# Altium integrated library Actel SX-A.IntLib: 301 symbols (part 23 of 23)
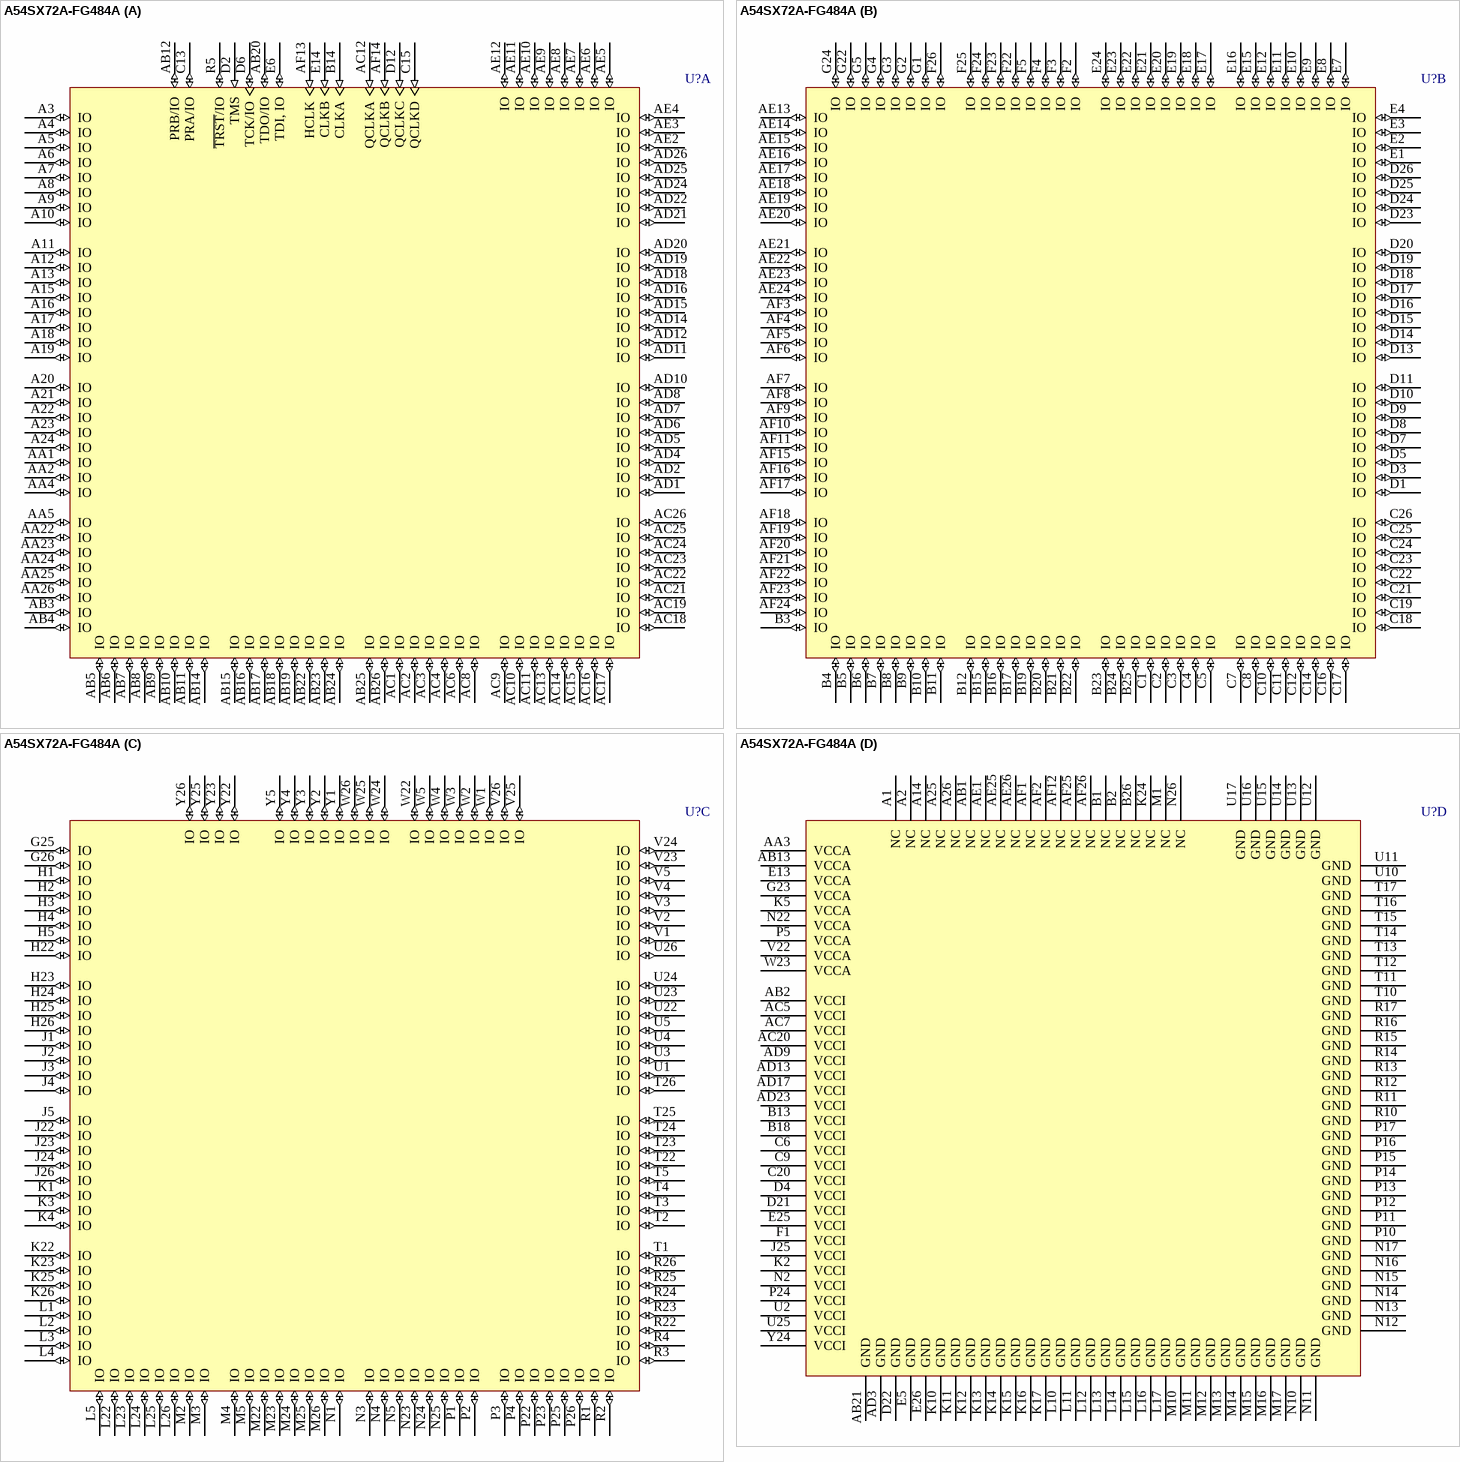
[diagram p254: symbol A54SX72A-FG484A]

## A54SX72A-FG484A
designator U?
A54SX72A FPGA, 360 User IOs, 484-Pin FBGA, Standard Speed Grade, Automotive Grade; Published: 21-May-2003; LatestRevisionDate: 13-Apr-2006; LatestRevisionNote: IPC-7351 Footprint Added.; DatasheetVersion: Feb-2005; PackageVersion: v9.2, Apr-2006; PackageReference: FG484TE; Publisher: Altium Limited; PackageDescription: 484-Ball Fine Pitch Plastic Ball Grid Array (FG484) - Thermally Enhanced; Code_JEDEC: MS-034-AAL-1; ComponentLink1Description: Manufacturer Link; ComponentLink1URL: http://www.actel.com/products/sxa/index.html; ComponentLink2Description: Datasheet; ComponentLink2URL: http://www.actel.com/documents/A54SXADS.pdf
footprint FG484TE (BGA, 484-Leads, Body 27x27mm, Pitch 1mm)
3D model A54SX72A-FG484TE (484-Ball Fine Pitch Plastic Ball Grid Array (FG484) - Thermally Enhanced)
part A pins: A3 IO (io), A4 IO (io), A5 IO (io), A6 IO (io), A7 IO (io), A8 IO (io), A9 IO (io), A10 IO (io), A11 IO (io), A12 IO (io), A13 IO (io), A15 IO (io), A16 IO (io), A17 IO (io), A18 IO (io), A19 IO (io), A20 IO (io), A21 IO (io), A22 IO (io), A23 IO (io), A24 IO (io), AA1 IO (io), AA2 IO (io), AA4 IO (io), AA5 IO (io), AA22 IO (io), AA23 IO (io), AA24 IO (io), AA25 IO (io), AA26 IO (io), AB3 IO (io), AB4 IO (io), AB5 IO (io), AB6 IO (io), AB7 IO (io), AB8 IO (io), AB9 IO (io), AB10 IO (io), AB11 IO (io), AB12 PRB/IO (io), AB14 IO (io), AB15 IO (io), AB16 IO (io), AB17 IO (io), AB18 IO (io), AB19 IO (io), AB20 TDO/IO (io), AB22 IO (io), AB23 IO (io), AB24 IO (io), AB25 IO (io), AB26 IO (io), AC1 IO (io), AC2 IO (io), AC3 IO (io), AC4 IO (io), AC6 IO (io), AC8 IO (io), AC9 IO (io), AC10 IO (io), AC11 IO (io), AC12 QCLKA (in), AC13 IO (io), AC14 IO (io), AC15 IO (io), AC16 IO (io), AC17 IO (io), AC18 IO (io), AC19 IO (io), AC21 IO (io), AC22 IO (io), AC23 IO (io), AC24 IO (io), AC25 IO (io), AC26 IO (io), AD1 IO (io), AD2 IO (io), AD4 IO (io), AD5 IO (io), AD6 IO (io), AD7 IO (io), AD8 IO (io), AD10 IO (io), AD11 IO (io), AD12 IO (io), AD14 IO (io), AD15 IO (io), AD16 IO (io), AD18 IO (io), AD19 IO (io), AD20 IO (io), AD21 IO (io), AD22 IO (io), AD24 IO (io), AD25 IO (io), AD26 IO (io), AE2 IO (io), AE3 IO (io), AE4 IO (io), AE5 IO (io), AE6 IO (io), AE7 IO (io), AE8 IO (io), AE9 IO (io), AE10 IO (io), AE11 IO (io), AE12 IO (io), AF13 HCLK (in), AF14 QCLKB (in), B14 CLKA (in), C13 PRA/IO (io), C15 QCLKD (in), D2 TMS (in), D6 TCK/IO (io), D12 QCLKC (in), E6 TDI, IO (io), E14 CLKB (in), R5 ~{TRST}/IO (io)
part B pins: AE13 IO (io), AE14 IO (io), AE15 IO (io), AE16 IO (io), AE17 IO (io), AE18 IO (io), AE19 IO (io), AE20 IO (io), AE21 IO (io), AE22 IO (io), AE23 IO (io), AE24 IO (io), AF3 IO (io), AF4 IO (io), AF5 IO (io), AF6 IO (io), AF7 IO (io), AF8 IO (io), AF9 IO (io), AF10 IO (io), AF11 IO (io), AF15 IO (io), AF16 IO (io), AF17 IO (io), AF18 IO (io), AF19 IO (io), AF20 IO (io), AF21 IO (io), AF22 IO (io), AF23 IO (io), AF24 IO (io), B3 IO (io), B4 IO (io), B5 IO (io), B6 IO (io), B7 IO (io), B8 IO (io), B9 IO (io), B10 IO (io), B11 IO (io), B12 IO (io), B15 IO (io), B16 IO (io), B17 IO (io), B19 IO (io), B20 IO (io), B21 IO (io), B22 IO (io), B23 IO (io), B24 IO (io), B25 IO (io), C1 IO (io), C2 IO (io), C3 IO (io), C4 IO (io), C5 IO (io), C7 IO (io), C8 IO (io), C10 IO (io), C11 IO (io), C12 IO (io), C14 IO (io), C16 IO (io), C17 IO (io), C18 IO (io), C19 IO (io), C21 IO (io), C22 IO (io), C23 IO (io), C24 IO (io), C25 IO (io), C26 IO (io), D1 IO (io), D3 IO (io), D5 IO (io), D7 IO (io), D8 IO (io), D9 IO (io), D10 IO (io), D11 IO (io), D13 IO (io), D14 IO (io), D15 IO (io), D16 IO (io), D17 IO (io), D18 IO (io), D19 IO (io), D20 IO (io), D23 IO (io), D24 IO (io), D25 IO (io), D26 IO (io), E1 IO (io), E2 IO (io), E3 IO (io), E4 IO (io), E7 IO (io), E8 IO (io), E9 IO (io), E10 IO (io), E11 IO (io), E12 IO (io), E15 IO (io), E16 IO (io), E17 IO (io), E18 IO (io), E19 IO (io), E20 IO (io), E21 IO (io), E22 IO (io), E23 IO (io), E24 IO (io), F2 IO (io), F3 IO (io), F4 IO (io), F5 IO (io), F22 IO (io), F23 IO (io), F24 IO (io), F25 IO (io), F26 IO (io), G1 IO (io), G2 IO (io), G3 IO (io), G4 IO (io), G5 IO (io), G22 IO (io), G24 IO (io)
part C pins: G25 IO (io), G26 IO (io), H1 IO (io), H2 IO (io), H3 IO (io), H4 IO (io), H5 IO (io), H22 IO (io), H23 IO (io), H24 IO (io), H25 IO (io), H26 IO (io), J1 IO (io), J2 IO (io), J3 IO (io), J4 IO (io), J5 IO (io), J22 IO (io), J23 IO (io), J24 IO (io), J26 IO (io), K1 IO (io), K3 IO (io), K4 IO (io), K22 IO (io), K23 IO (io), K25 IO (io), K26 IO (io), L1 IO (io), L2 IO (io), L3 IO (io), L4 IO (io), L5 IO (io), L22 IO (io), L23 IO (io), L24 IO (io), L25 IO (io), L26 IO (io), M2 IO (io), M3 IO (io), M4 IO (io), M5 IO (io), M22 IO (io), M23 IO (io), M24 IO (io), M25 IO (io), M26 IO (io), N1 IO (io), N3 IO (io), N4 IO (io), N5 IO (io), N23 IO (io), N24 IO (io), N25 IO (io), P1 IO (io), P2 IO (io), P3 IO (io), P4 IO (io), P22 IO (io), P23 IO (io), P25 IO (io), P26 IO (io), R1 IO (io), R2 IO (io), R3 IO (io), R4 IO (io), R22 IO (io), R23 IO (io), R24 IO (io), R25 IO (io), R26 IO (io), T1 IO (io), T2 IO (io), T3 IO (io), T4 IO (io), T5 IO (io), T22 IO (io), T23 IO (io), T24 IO (io), T25 IO (io), T26 IO (io), U1 IO (io), U3 IO (io), U4 IO (io), U5 IO (io), U22 IO (io), U23 IO (io), U24 IO (io), U26 IO (io), V1 IO (io), V2 IO (io), V3 IO (io), V4 IO (io), V5 IO (io), V23 IO (io), V24 IO (io), V25 IO (io), V26 IO (io), W1 IO (io), W2 IO (io), W3 IO (io), W4 IO (io), W5 IO (io), W22 IO (io), W24 IO (io), W25 IO (io), W26 IO (io), Y1 IO (io), Y2 IO (io), Y3 IO (io), Y4 IO (io), Y5 IO (io), Y22 IO (io), Y23 IO (io), Y25 IO (io), Y26 IO (io)
part D pins: A1 NC, A2 NC, A14 NC, A25 NC, A26 NC, AA3 VCCA (power), AB1 NC, AB2 VCCI (power), AB13 VCCA (power), AB21 GND (power), AC5 VCCI (power), AC7 VCCI (power), AC20 VCCI (power), AD3 GND (power), AD9 VCCI (power), AD13 VCCI (power), AD17 VCCI (power), AD23 VCCI (power), AE1 NC, AE25 NC, AE26 NC, AF1 NC, AF2 NC, AF12 NC, AF25 NC, AF26 NC, B1 NC, B2 NC, B13 VCCI (power), B18 VCCI (power), B26 NC, C6 VCCI (power), C9 VCCI (power), C20 VCCI (power), D4 VCCI (power), D21 VCCI (power), D22 GND (power), E5 GND (power), E13 VCCA (power), E25 VCCI (power), E26 GND (power), F1 VCCI (power), G23 VCCA (power), J25 VCCI (power), K2 VCCI (power), K5 VCCA (power), K10 GND (power), K11 GND (power), K12 GND (power), K13 GND (power), K14 GND (power), K15 GND (power), K16 GND (power), K17 GND (power), K24 NC, L10 GND (power), L11 GND (power), L12 GND (power), L13 GND (power), L14 GND (power), L15 GND (power), L16 GND (power), L17 GND (power), M1 NC, M10 GND (power), M11 GND (power), M12 GND (power), M13 GND (power), M14 GND (power), M15 GND (power), M16 GND (power), M17 GND (power), N2 VCCI (power), N10 GND (power), N11 GND (power), N12 GND (power), N13 GND (power), N14 GND (power), N15 GND (power), N16 GND (power), N17 GND (power), N22 VCCA (power), N26 NC, P5 VCCA (power), P10 GND (power), P11 GND (power), P12 GND (power), P13 GND (power), P14 GND (power), P15 GND (power), P16 GND (power), P17 GND (power), P24 VCCI (power), R10 GND (power), R11 GND (power), R12 GND (power), R13 GND (power), R14 GND (power), R15 GND (power), R16 GND (power), R17 GND (power), T10 GND (power), T11 GND (power), T12 GND (power), T13 GND (power), T14 GND (power), T15 GND (power), T16 GND (power), T17 GND (power), U2 VCCI (power), U10 GND (power), U11 GND (power), U12 GND (power), U13 GND (power), U14 GND (power), U15 GND (power), U16 GND (power), U17 GND (power), U25 VCCI (power), V22 VCCA (power), W23 VCCA (power), Y24 VCCI (power)

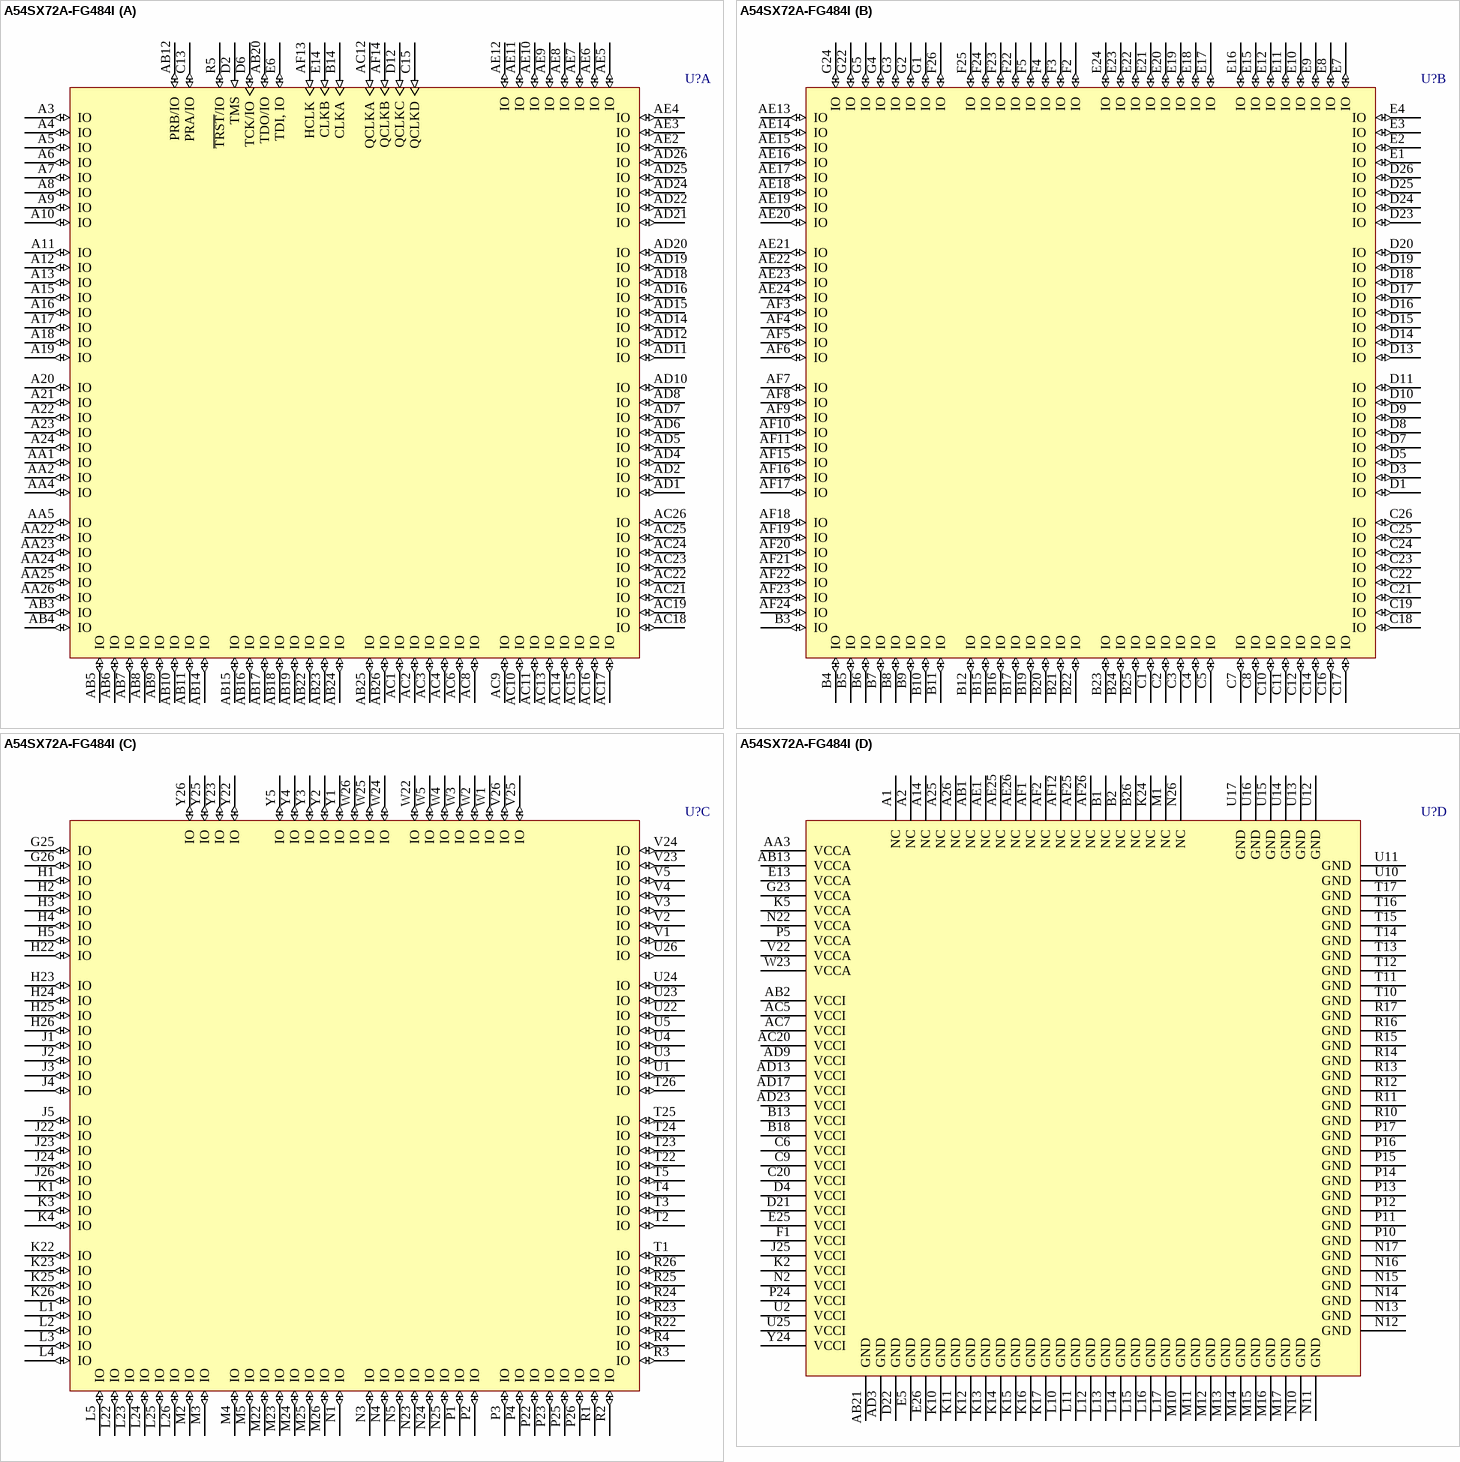
[diagram p225: symbol A54SX72A-FG484I]

## A54SX72A-FG484I
designator U?
A54SX72A FPGA, 360 User IOs, 484-Pin FBGA, Standard Speed Grade, Industrial Grade; Published: 21-May-2003; LatestRevisionDate: 13-Apr-2006; LatestRevisionNote: IPC-7351 Footprint Added.; DatasheetVersion: Feb-2005; PackageVersion: v9.2, Apr-2006; PackageReference: FG484TE; Publisher: Altium Limited; PackageDescription: 484-Ball Fine Pitch Plastic Ball Grid Array (FG484) - Thermally Enhanced; Code_JEDEC: MS-034-AAL-1; ComponentLink1Description: Manufacturer Link; ComponentLink1URL: http://www.actel.com/products/sxa/index.html; ComponentLink2Description: Datasheet; ComponentLink2URL: http://www.actel.com/documents/A54SXADS.pdf
footprint FG484TE (BGA, 484-Leads, Body 27x27mm, Pitch 1mm)
3D model A54SX72A-FG484TE (484-Ball Fine Pitch Plastic Ball Grid Array (FG484) - Thermally Enhanced)
part A pins: A3 IO (io), A4 IO (io), A5 IO (io), A6 IO (io), A7 IO (io), A8 IO (io), A9 IO (io), A10 IO (io), A11 IO (io), A12 IO (io), A13 IO (io), A15 IO (io), A16 IO (io), A17 IO (io), A18 IO (io), A19 IO (io), A20 IO (io), A21 IO (io), A22 IO (io), A23 IO (io), A24 IO (io), AA1 IO (io), AA2 IO (io), AA4 IO (io), AA5 IO (io), AA22 IO (io), AA23 IO (io), AA24 IO (io), AA25 IO (io), AA26 IO (io), AB3 IO (io), AB4 IO (io), AB5 IO (io), AB6 IO (io), AB7 IO (io), AB8 IO (io), AB9 IO (io), AB10 IO (io), AB11 IO (io), AB12 PRB/IO (io), AB14 IO (io), AB15 IO (io), AB16 IO (io), AB17 IO (io), AB18 IO (io), AB19 IO (io), AB20 TDO/IO (io), AB22 IO (io), AB23 IO (io), AB24 IO (io), AB25 IO (io), AB26 IO (io), AC1 IO (io), AC2 IO (io), AC3 IO (io), AC4 IO (io), AC6 IO (io), AC8 IO (io), AC9 IO (io), AC10 IO (io), AC11 IO (io), AC12 QCLKA (in), AC13 IO (io), AC14 IO (io), AC15 IO (io), AC16 IO (io), AC17 IO (io), AC18 IO (io), AC19 IO (io), AC21 IO (io), AC22 IO (io), AC23 IO (io), AC24 IO (io), AC25 IO (io), AC26 IO (io), AD1 IO (io), AD2 IO (io), AD4 IO (io), AD5 IO (io), AD6 IO (io), AD7 IO (io), AD8 IO (io), AD10 IO (io), AD11 IO (io), AD12 IO (io), AD14 IO (io), AD15 IO (io), AD16 IO (io), AD18 IO (io), AD19 IO (io), AD20 IO (io), AD21 IO (io), AD22 IO (io), AD24 IO (io), AD25 IO (io), AD26 IO (io), AE2 IO (io), AE3 IO (io), AE4 IO (io), AE5 IO (io), AE6 IO (io), AE7 IO (io), AE8 IO (io), AE9 IO (io), AE10 IO (io), AE11 IO (io), AE12 IO (io), AF13 HCLK (in), AF14 QCLKB (in), B14 CLKA (in), C13 PRA/IO (io), C15 QCLKD (in), D2 TMS (in), D6 TCK/IO (io), D12 QCLKC (in), E6 TDI, IO (io), E14 CLKB (in), R5 ~{TRST}/IO (io)
part B pins: AE13 IO (io), AE14 IO (io), AE15 IO (io), AE16 IO (io), AE17 IO (io), AE18 IO (io), AE19 IO (io), AE20 IO (io), AE21 IO (io), AE22 IO (io), AE23 IO (io), AE24 IO (io), AF3 IO (io), AF4 IO (io), AF5 IO (io), AF6 IO (io), AF7 IO (io), AF8 IO (io), AF9 IO (io), AF10 IO (io), AF11 IO (io), AF15 IO (io), AF16 IO (io), AF17 IO (io), AF18 IO (io), AF19 IO (io), AF20 IO (io), AF21 IO (io), AF22 IO (io), AF23 IO (io), AF24 IO (io), B3 IO (io), B4 IO (io), B5 IO (io), B6 IO (io), B7 IO (io), B8 IO (io), B9 IO (io), B10 IO (io), B11 IO (io), B12 IO (io), B15 IO (io), B16 IO (io), B17 IO (io), B19 IO (io), B20 IO (io), B21 IO (io), B22 IO (io), B23 IO (io), B24 IO (io), B25 IO (io), C1 IO (io), C2 IO (io), C3 IO (io), C4 IO (io), C5 IO (io), C7 IO (io), C8 IO (io), C10 IO (io), C11 IO (io), C12 IO (io), C14 IO (io), C16 IO (io), C17 IO (io), C18 IO (io), C19 IO (io), C21 IO (io), C22 IO (io), C23 IO (io), C24 IO (io), C25 IO (io), C26 IO (io), D1 IO (io), D3 IO (io), D5 IO (io), D7 IO (io), D8 IO (io), D9 IO (io), D10 IO (io), D11 IO (io), D13 IO (io), D14 IO (io), D15 IO (io), D16 IO (io), D17 IO (io), D18 IO (io), D19 IO (io), D20 IO (io), D23 IO (io), D24 IO (io), D25 IO (io), D26 IO (io), E1 IO (io), E2 IO (io), E3 IO (io), E4 IO (io), E7 IO (io), E8 IO (io), E9 IO (io), E10 IO (io), E11 IO (io), E12 IO (io), E15 IO (io), E16 IO (io), E17 IO (io), E18 IO (io), E19 IO (io), E20 IO (io), E21 IO (io), E22 IO (io), E23 IO (io), E24 IO (io), F2 IO (io), F3 IO (io), F4 IO (io), F5 IO (io), F22 IO (io), F23 IO (io), F24 IO (io), F25 IO (io), F26 IO (io), G1 IO (io), G2 IO (io), G3 IO (io), G4 IO (io), G5 IO (io), G22 IO (io), G24 IO (io)
part C pins: G25 IO (io), G26 IO (io), H1 IO (io), H2 IO (io), H3 IO (io), H4 IO (io), H5 IO (io), H22 IO (io), H23 IO (io), H24 IO (io), H25 IO (io), H26 IO (io), J1 IO (io), J2 IO (io), J3 IO (io), J4 IO (io), J5 IO (io), J22 IO (io), J23 IO (io), J24 IO (io), J26 IO (io), K1 IO (io), K3 IO (io), K4 IO (io), K22 IO (io), K23 IO (io), K25 IO (io), K26 IO (io), L1 IO (io), L2 IO (io), L3 IO (io), L4 IO (io), L5 IO (io), L22 IO (io), L23 IO (io), L24 IO (io), L25 IO (io), L26 IO (io), M2 IO (io), M3 IO (io), M4 IO (io), M5 IO (io), M22 IO (io), M23 IO (io), M24 IO (io), M25 IO (io), M26 IO (io), N1 IO (io), N3 IO (io), N4 IO (io), N5 IO (io), N23 IO (io), N24 IO (io), N25 IO (io), P1 IO (io), P2 IO (io), P3 IO (io), P4 IO (io), P22 IO (io), P23 IO (io), P25 IO (io), P26 IO (io), R1 IO (io), R2 IO (io), R3 IO (io), R4 IO (io), R22 IO (io), R23 IO (io), R24 IO (io), R25 IO (io), R26 IO (io), T1 IO (io), T2 IO (io), T3 IO (io), T4 IO (io), T5 IO (io), T22 IO (io), T23 IO (io), T24 IO (io), T25 IO (io), T26 IO (io), U1 IO (io), U3 IO (io), U4 IO (io), U5 IO (io), U22 IO (io), U23 IO (io), U24 IO (io), U26 IO (io), V1 IO (io), V2 IO (io), V3 IO (io), V4 IO (io), V5 IO (io), V23 IO (io), V24 IO (io), V25 IO (io), V26 IO (io), W1 IO (io), W2 IO (io), W3 IO (io), W4 IO (io), W5 IO (io), W22 IO (io), W24 IO (io), W25 IO (io), W26 IO (io), Y1 IO (io), Y2 IO (io), Y3 IO (io), Y4 IO (io), Y5 IO (io), Y22 IO (io), Y23 IO (io), Y25 IO (io), Y26 IO (io)
part D pins: A1 NC, A2 NC, A14 NC, A25 NC, A26 NC, AA3 VCCA (power), AB1 NC, AB2 VCCI (power), AB13 VCCA (power), AB21 GND (power), AC5 VCCI (power), AC7 VCCI (power), AC20 VCCI (power), AD3 GND (power), AD9 VCCI (power), AD13 VCCI (power), AD17 VCCI (power), AD23 VCCI (power), AE1 NC, AE25 NC, AE26 NC, AF1 NC, AF2 NC, AF12 NC, AF25 NC, AF26 NC, B1 NC, B2 NC, B13 VCCI (power), B18 VCCI (power), B26 NC, C6 VCCI (power), C9 VCCI (power), C20 VCCI (power), D4 VCCI (power), D21 VCCI (power), D22 GND (power), E5 GND (power), E13 VCCA (power), E25 VCCI (power), E26 GND (power), F1 VCCI (power), G23 VCCA (power), J25 VCCI (power), K2 VCCI (power), K5 VCCA (power), K10 GND (power), K11 GND (power), K12 GND (power), K13 GND (power), K14 GND (power), K15 GND (power), K16 GND (power), K17 GND (power), K24 NC, L10 GND (power), L11 GND (power), L12 GND (power), L13 GND (power), L14 GND (power), L15 GND (power), L16 GND (power), L17 GND (power), M1 NC, M10 GND (power), M11 GND (power), M12 GND (power), M13 GND (power), M14 GND (power), M15 GND (power), M16 GND (power), M17 GND (power), N2 VCCI (power), N10 GND (power), N11 GND (power), N12 GND (power), N13 GND (power), N14 GND (power), N15 GND (power), N16 GND (power), N17 GND (power), N22 VCCA (power), N26 NC, P5 VCCA (power), P10 GND (power), P11 GND (power), P12 GND (power), P13 GND (power), P14 GND (power), P15 GND (power), P16 GND (power), P17 GND (power), P24 VCCI (power), R10 GND (power), R11 GND (power), R12 GND (power), R13 GND (power), R14 GND (power), R15 GND (power), R16 GND (power), R17 GND (power), T10 GND (power), T11 GND (power), T12 GND (power), T13 GND (power), T14 GND (power), T15 GND (power), T16 GND (power), T17 GND (power), U2 VCCI (power), U10 GND (power), U11 GND (power), U12 GND (power), U13 GND (power), U14 GND (power), U15 GND (power), U16 GND (power), U17 GND (power), U25 VCCI (power), V22 VCCA (power), W23 VCCA (power), Y24 VCCI (power)

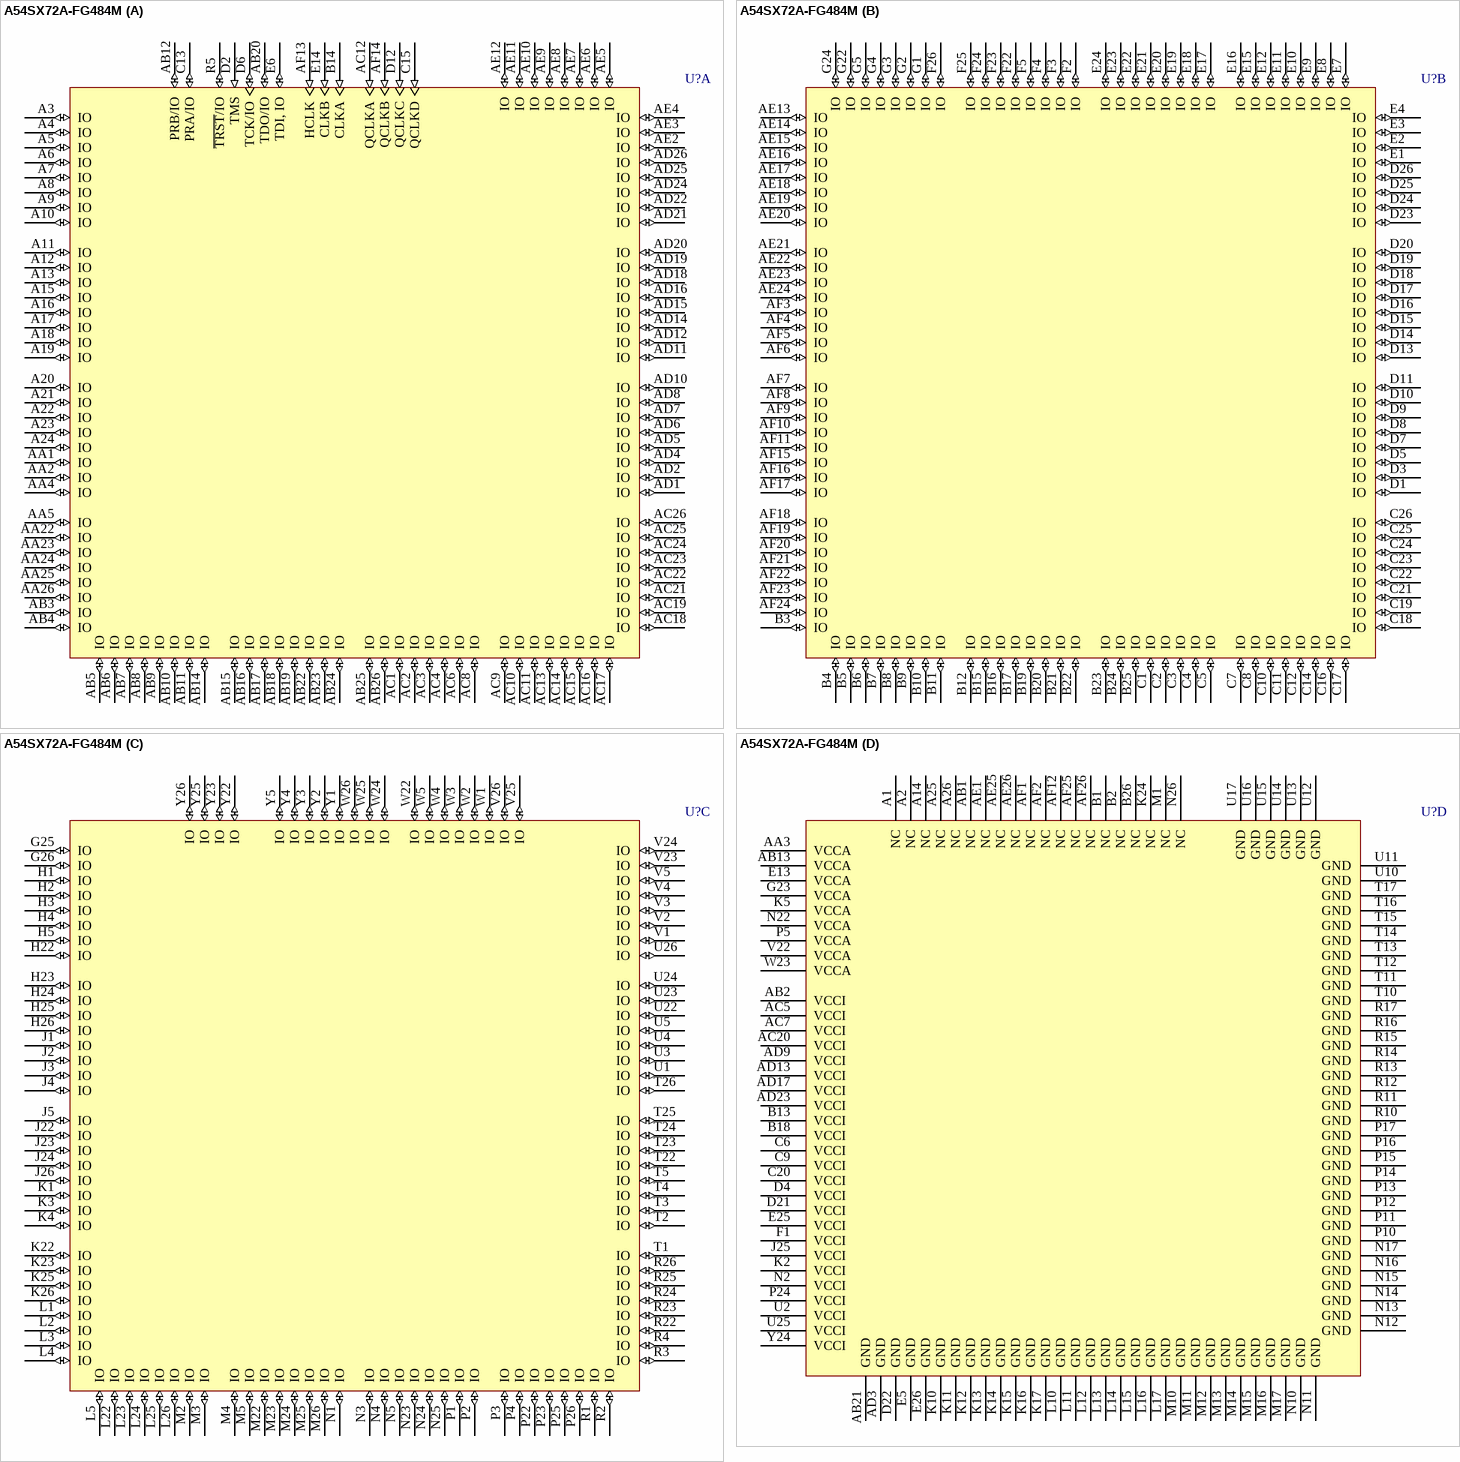
[diagram p226: symbol A54SX72A-FG484M]

## A54SX72A-FG484M
designator U?
A54SX72A FPGA, 360 User IOs, 484-Pin FBGA, Standard Speed Grade, Military Grade; Published: 21-May-2003; LatestRevisionDate: 13-Apr-2006; LatestRevisionNote: IPC-7351 Footprint Added.; DatasheetVersion: Feb-2005; PackageVersion: v9.2, Apr-2006; PackageReference: FG484TE; Publisher: Altium Limited; PackageDescription: 484-Ball Fine Pitch Plastic Ball Grid Array (FG484) - Thermally Enhanced; Code_JEDEC: MS-034-AAL-1; ComponentLink1Description: Manufacturer Link; ComponentLink1URL: http://www.actel.com/products/sxa/index.html; ComponentLink2Description: Datasheet; ComponentLink2URL: http://www.actel.com/documents/A54SXADS.pdf
footprint FG484TE (BGA, 484-Leads, Body 27x27mm, Pitch 1mm)
3D model A54SX72A-FG484TE (484-Ball Fine Pitch Plastic Ball Grid Array (FG484) - Thermally Enhanced)
part A pins: A3 IO (io), A4 IO (io), A5 IO (io), A6 IO (io), A7 IO (io), A8 IO (io), A9 IO (io), A10 IO (io), A11 IO (io), A12 IO (io), A13 IO (io), A15 IO (io), A16 IO (io), A17 IO (io), A18 IO (io), A19 IO (io), A20 IO (io), A21 IO (io), A22 IO (io), A23 IO (io), A24 IO (io), AA1 IO (io), AA2 IO (io), AA4 IO (io), AA5 IO (io), AA22 IO (io), AA23 IO (io), AA24 IO (io), AA25 IO (io), AA26 IO (io), AB3 IO (io), AB4 IO (io), AB5 IO (io), AB6 IO (io), AB7 IO (io), AB8 IO (io), AB9 IO (io), AB10 IO (io), AB11 IO (io), AB12 PRB/IO (io), AB14 IO (io), AB15 IO (io), AB16 IO (io), AB17 IO (io), AB18 IO (io), AB19 IO (io), AB20 TDO/IO (io), AB22 IO (io), AB23 IO (io), AB24 IO (io), AB25 IO (io), AB26 IO (io), AC1 IO (io), AC2 IO (io), AC3 IO (io), AC4 IO (io), AC6 IO (io), AC8 IO (io), AC9 IO (io), AC10 IO (io), AC11 IO (io), AC12 QCLKA (in), AC13 IO (io), AC14 IO (io), AC15 IO (io), AC16 IO (io), AC17 IO (io), AC18 IO (io), AC19 IO (io), AC21 IO (io), AC22 IO (io), AC23 IO (io), AC24 IO (io), AC25 IO (io), AC26 IO (io), AD1 IO (io), AD2 IO (io), AD4 IO (io), AD5 IO (io), AD6 IO (io), AD7 IO (io), AD8 IO (io), AD10 IO (io), AD11 IO (io), AD12 IO (io), AD14 IO (io), AD15 IO (io), AD16 IO (io), AD18 IO (io), AD19 IO (io), AD20 IO (io), AD21 IO (io), AD22 IO (io), AD24 IO (io), AD25 IO (io), AD26 IO (io), AE2 IO (io), AE3 IO (io), AE4 IO (io), AE5 IO (io), AE6 IO (io), AE7 IO (io), AE8 IO (io), AE9 IO (io), AE10 IO (io), AE11 IO (io), AE12 IO (io), AF13 HCLK (in), AF14 QCLKB (in), B14 CLKA (in), C13 PRA/IO (io), C15 QCLKD (in), D2 TMS (in), D6 TCK/IO (io), D12 QCLKC (in), E6 TDI, IO (io), E14 CLKB (in), R5 ~{TRST}/IO (io)
part B pins: AE13 IO (io), AE14 IO (io), AE15 IO (io), AE16 IO (io), AE17 IO (io), AE18 IO (io), AE19 IO (io), AE20 IO (io), AE21 IO (io), AE22 IO (io), AE23 IO (io), AE24 IO (io), AF3 IO (io), AF4 IO (io), AF5 IO (io), AF6 IO (io), AF7 IO (io), AF8 IO (io), AF9 IO (io), AF10 IO (io), AF11 IO (io), AF15 IO (io), AF16 IO (io), AF17 IO (io), AF18 IO (io), AF19 IO (io), AF20 IO (io), AF21 IO (io), AF22 IO (io), AF23 IO (io), AF24 IO (io), B3 IO (io), B4 IO (io), B5 IO (io), B6 IO (io), B7 IO (io), B8 IO (io), B9 IO (io), B10 IO (io), B11 IO (io), B12 IO (io), B15 IO (io), B16 IO (io), B17 IO (io), B19 IO (io), B20 IO (io), B21 IO (io), B22 IO (io), B23 IO (io), B24 IO (io), B25 IO (io), C1 IO (io), C2 IO (io), C3 IO (io), C4 IO (io), C5 IO (io), C7 IO (io), C8 IO (io), C10 IO (io), C11 IO (io), C12 IO (io), C14 IO (io), C16 IO (io), C17 IO (io), C18 IO (io), C19 IO (io), C21 IO (io), C22 IO (io), C23 IO (io), C24 IO (io), C25 IO (io), C26 IO (io), D1 IO (io), D3 IO (io), D5 IO (io), D7 IO (io), D8 IO (io), D9 IO (io), D10 IO (io), D11 IO (io), D13 IO (io), D14 IO (io), D15 IO (io), D16 IO (io), D17 IO (io), D18 IO (io), D19 IO (io), D20 IO (io), D23 IO (io), D24 IO (io), D25 IO (io), D26 IO (io), E1 IO (io), E2 IO (io), E3 IO (io), E4 IO (io), E7 IO (io), E8 IO (io), E9 IO (io), E10 IO (io), E11 IO (io), E12 IO (io), E15 IO (io), E16 IO (io), E17 IO (io), E18 IO (io), E19 IO (io), E20 IO (io), E21 IO (io), E22 IO (io), E23 IO (io), E24 IO (io), F2 IO (io), F3 IO (io), F4 IO (io), F5 IO (io), F22 IO (io), F23 IO (io), F24 IO (io), F25 IO (io), F26 IO (io), G1 IO (io), G2 IO (io), G3 IO (io), G4 IO (io), G5 IO (io), G22 IO (io), G24 IO (io)
part C pins: G25 IO (io), G26 IO (io), H1 IO (io), H2 IO (io), H3 IO (io), H4 IO (io), H5 IO (io), H22 IO (io), H23 IO (io), H24 IO (io), H25 IO (io), H26 IO (io), J1 IO (io), J2 IO (io), J3 IO (io), J4 IO (io), J5 IO (io), J22 IO (io), J23 IO (io), J24 IO (io), J26 IO (io), K1 IO (io), K3 IO (io), K4 IO (io), K22 IO (io), K23 IO (io), K25 IO (io), K26 IO (io), L1 IO (io), L2 IO (io), L3 IO (io), L4 IO (io), L5 IO (io), L22 IO (io), L23 IO (io), L24 IO (io), L25 IO (io), L26 IO (io), M2 IO (io), M3 IO (io), M4 IO (io), M5 IO (io), M22 IO (io), M23 IO (io), M24 IO (io), M25 IO (io), M26 IO (io), N1 IO (io), N3 IO (io), N4 IO (io), N5 IO (io), N23 IO (io), N24 IO (io), N25 IO (io), P1 IO (io), P2 IO (io), P3 IO (io), P4 IO (io), P22 IO (io), P23 IO (io), P25 IO (io), P26 IO (io), R1 IO (io), R2 IO (io), R3 IO (io), R4 IO (io), R22 IO (io), R23 IO (io), R24 IO (io), R25 IO (io), R26 IO (io), T1 IO (io), T2 IO (io), T3 IO (io), T4 IO (io), T5 IO (io), T22 IO (io), T23 IO (io), T24 IO (io), T25 IO (io), T26 IO (io), U1 IO (io), U3 IO (io), U4 IO (io), U5 IO (io), U22 IO (io), U23 IO (io), U24 IO (io), U26 IO (io), V1 IO (io), V2 IO (io), V3 IO (io), V4 IO (io), V5 IO (io), V23 IO (io), V24 IO (io), V25 IO (io), V26 IO (io), W1 IO (io), W2 IO (io), W3 IO (io), W4 IO (io), W5 IO (io), W22 IO (io), W24 IO (io), W25 IO (io), W26 IO (io), Y1 IO (io), Y2 IO (io), Y3 IO (io), Y4 IO (io), Y5 IO (io), Y22 IO (io), Y23 IO (io), Y25 IO (io), Y26 IO (io)
part D pins: A1 NC, A2 NC, A14 NC, A25 NC, A26 NC, AA3 VCCA (power), AB1 NC, AB2 VCCI (power), AB13 VCCA (power), AB21 GND (power), AC5 VCCI (power), AC7 VCCI (power), AC20 VCCI (power), AD3 GND (power), AD9 VCCI (power), AD13 VCCI (power), AD17 VCCI (power), AD23 VCCI (power), AE1 NC, AE25 NC, AE26 NC, AF1 NC, AF2 NC, AF12 NC, AF25 NC, AF26 NC, B1 NC, B2 NC, B13 VCCI (power), B18 VCCI (power), B26 NC, C6 VCCI (power), C9 VCCI (power), C20 VCCI (power), D4 VCCI (power), D21 VCCI (power), D22 GND (power), E5 GND (power), E13 VCCA (power), E25 VCCI (power), E26 GND (power), F1 VCCI (power), G23 VCCA (power), J25 VCCI (power), K2 VCCI (power), K5 VCCA (power), K10 GND (power), K11 GND (power), K12 GND (power), K13 GND (power), K14 GND (power), K15 GND (power), K16 GND (power), K17 GND (power), K24 NC, L10 GND (power), L11 GND (power), L12 GND (power), L13 GND (power), L14 GND (power), L15 GND (power), L16 GND (power), L17 GND (power), M1 NC, M10 GND (power), M11 GND (power), M12 GND (power), M13 GND (power), M14 GND (power), M15 GND (power), M16 GND (power), M17 GND (power), N2 VCCI (power), N10 GND (power), N11 GND (power), N12 GND (power), N13 GND (power), N14 GND (power), N15 GND (power), N16 GND (power), N17 GND (power), N22 VCCA (power), N26 NC, P5 VCCA (power), P10 GND (power), P11 GND (power), P12 GND (power), P13 GND (power), P14 GND (power), P15 GND (power), P16 GND (power), P17 GND (power), P24 VCCI (power), R10 GND (power), R11 GND (power), R12 GND (power), R13 GND (power), R14 GND (power), R15 GND (power), R16 GND (power), R17 GND (power), T10 GND (power), T11 GND (power), T12 GND (power), T13 GND (power), T14 GND (power), T15 GND (power), T16 GND (power), T17 GND (power), U2 VCCI (power), U10 GND (power), U11 GND (power), U12 GND (power), U13 GND (power), U14 GND (power), U15 GND (power), U16 GND (power), U17 GND (power), U25 VCCI (power), V22 VCCA (power), W23 VCCA (power), Y24 VCCI (power)

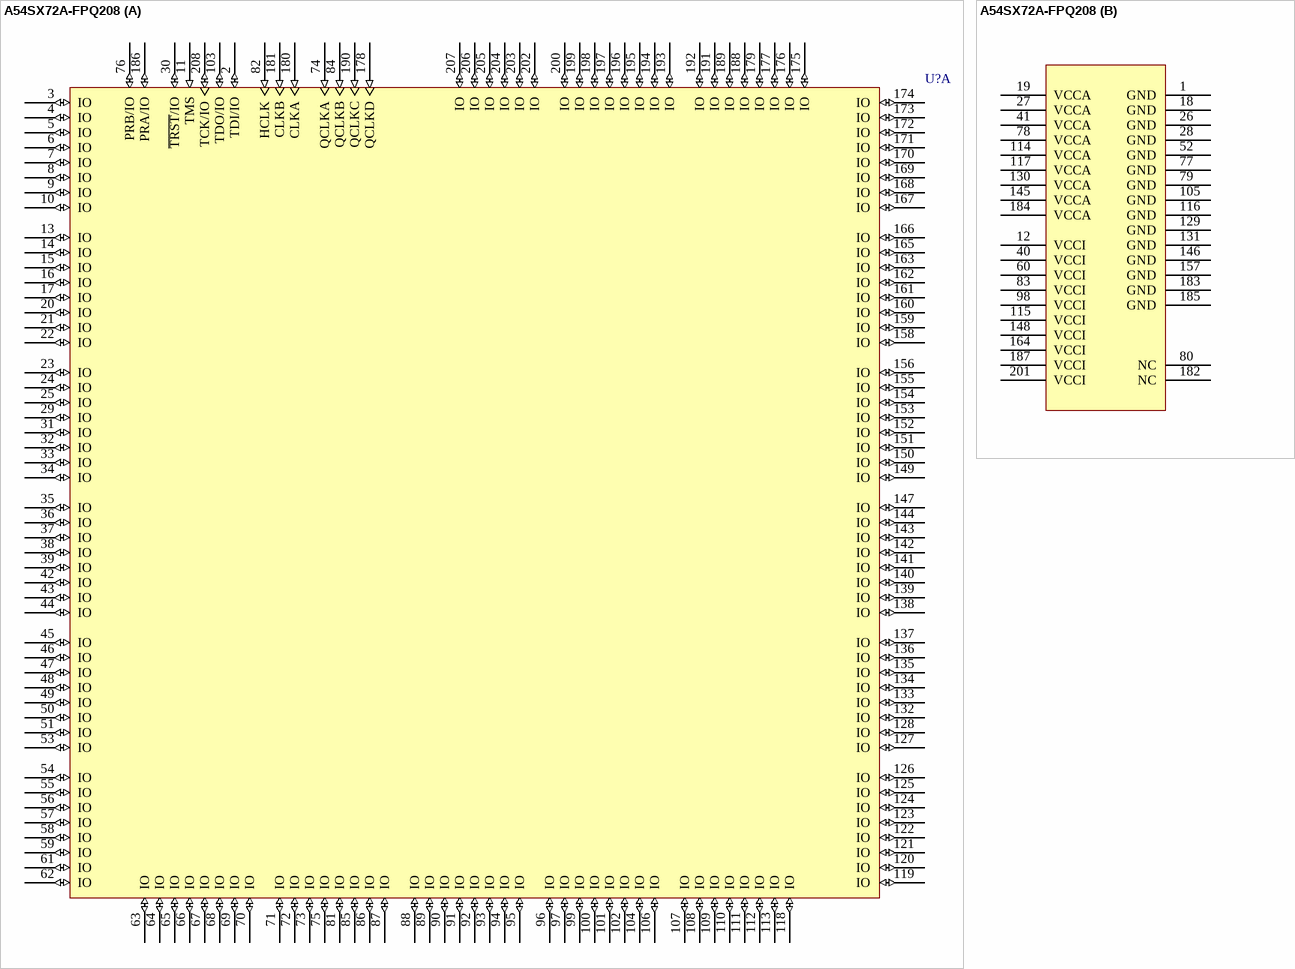
[diagram p227: symbol A54SX72A-FPQ208]

## A54SX72A-FPQ208
designator U?
A54SX72A FPGA, 171 User IOs, 208-Pin PQFP, Speed Grade F, Commercial Grade; Published: 21-May-2003; LatestRevisionDate: 13-Apr-2006; LatestRevisionNote: IPC-7351 Footprint Added.; DatasheetVersion: Feb-2005; PackageVersion: v9.2, Apr-2006; PackageReference: PQ208; Publisher: Altium Limited; PackageDescription: 208-Pin Plastic Quad Flat Pack (PQ208); Code_JEDEC: MS-029-FA-1; ComponentLink1Description: Manufacturer Link; ComponentLink1URL: http://www.actel.com/products/sxa/index.html; ComponentLink2Description: Datasheet; ComponentLink2URL: http://www.actel.com/documents/A54SXADS.pdf
footprint PQ208_N (Shrink QFP, 208-Leads, Body 28x28mm, Pitch 0.5mm, IPC Medium Density)
footprint PQ208_L (Shrink QFP, 208-Leads, Body 28x28mm, Pitch 0.5mm, IPC High Density)
footprint PQ208_M (Shrink QFP, 208-Leads, Body 28x28mm, Pitch 0.5mm, IPC Low Density)
3D model A54SX72A-PQ208 (208-Pin Plastic Quad Flat Pack (PQ208))
part A pins: 2 TDI/IO (io), 3 IO (io), 4 IO (io), 5 IO (io), 6 IO (io), 7 IO (io), 8 IO (io), 9 IO (io), 10 IO (io), 11 TMS (in), 13 IO (io), 14 IO (io), 15 IO (io), 16 IO (io), 17 IO (io), 20 IO (io), 21 IO (io), 22 IO (io), 23 IO (io), 24 IO (io), 25 IO (io), 29 IO (io), 30 ~{TRST}/IO (io), 31 IO (io), 32 IO (io), 33 IO (io), 34 IO (io), 35 IO (io), 36 IO (io), 37 IO (io), 38 IO (io), 39 IO (io), 42 IO (io), 43 IO (io), 44 IO (io), 45 IO (io), 46 IO (io), 47 IO (io), 48 IO (io), 49 IO (io), 50 IO (io), 51 IO (io), 53 IO (io), 54 IO (io), 55 IO (io), 56 IO (io), 57 IO (io), 58 IO (io), 59 IO (io), 61 IO (io), 62 IO (io), 63 IO (io), 64 IO (io), 65 IO (io), 66 IO (io), 67 IO (io), 68 IO (io), 69 IO (io), 70 IO (io), 71 IO (io), 72 IO (io), 73 IO (io), 74 QCLKA (in), 75 IO (io), 76 PRB/IO (io), 81 IO (io), 82 HCLK (in), 84 QCLKB (in), 85 IO (io), 86 IO (io), 87 IO (io), 88 IO (io), 89 IO (io), 90 IO (io), 91 IO (io), 92 IO (io), 93 IO (io), 94 IO (io), 95 IO (io), 96 IO (io), 97 IO (io), 99 IO (io), 100 IO (io), 101 IO (io), 102 IO (io), 103 TDO/IO (io), 104 IO (io), 106 IO (io), 107 IO (io), 108 IO (io), 109 IO (io), 110 IO (io), 111 IO (io), 112 IO (io), 113 IO (io), 118 IO (io), 119 IO (io), 120 IO (io), 121 IO (io), 122 IO (io), 123 IO (io), 124 IO (io), 125 IO (io), 126 IO (io), 127 IO (io), 128 IO (io), 132 IO (io), 133 IO (io), 134 IO (io), 135 IO (io), 136 IO (io), 137 IO (io), 138 IO (io), 139 IO (io), 140 IO (io), 141 IO (io), 142 IO (io), 143 IO (io), 144 IO (io), 147 IO (io), 149 IO (io), 150 IO (io), 151 IO (io), 152 IO (io), 153 IO (io), 154 IO (io), 155 IO (io), 156 IO (io), 158 IO (io), 159 IO (io), 160 IO (io), 161 IO (io), 162 IO (io), 163 IO (io), 165 IO (io), 166 IO (io), 167 IO (io), 168 IO (io), 169 IO (io), 170 IO (io), 171 IO (io), 172 IO (io), 173 IO (io), 174 IO (io), 175 IO (io), 176 IO (io), 177 IO (io), 178 QCLKD (in), 179 IO (io), 180 CLKA (in), 181 CLKB (in), 186 PRA/IO (io), 188 IO (io), 189 IO (io), 190 QCLKC (in), 191 IO (io), 192 IO (io), 193 IO (io), 194 IO (io), 195 IO (io), 196 IO (io), 197 IO (io), 198 IO (io), 199 IO (io), 200 IO (io), 202 IO (io), 203 IO (io), 204 IO (io), 205 IO (io), 206 IO (io), 207 IO (io), 208 TCK/IO (io)
part B pins: 1 GND (power), 12 VCCI (power), 18 GND (power), 19 VCCA (power), 26 GND (power), 27 VCCA (power), 28 GND (power), 40 VCCI (power), 41 VCCA (power), 52 GND (power), 60 VCCI (power), 77 GND (power), 78 VCCA (power), 79 GND (power), 80 NC, 83 VCCI (power), 98 VCCI (power), 105 GND (power), 114 VCCA (power), 115 VCCI (power), 116 GND (power), 117 VCCA (power), 129 GND (power), 130 VCCA (power), 131 GND (power), 145 VCCA (power), 146 GND (power), 148 VCCI (power), 157 GND (power), 164 VCCI (power), 182 NC, 183 GND (power), 184 VCCA (power), 185 GND (power), 187 VCCI (power), 201 VCCI (power)

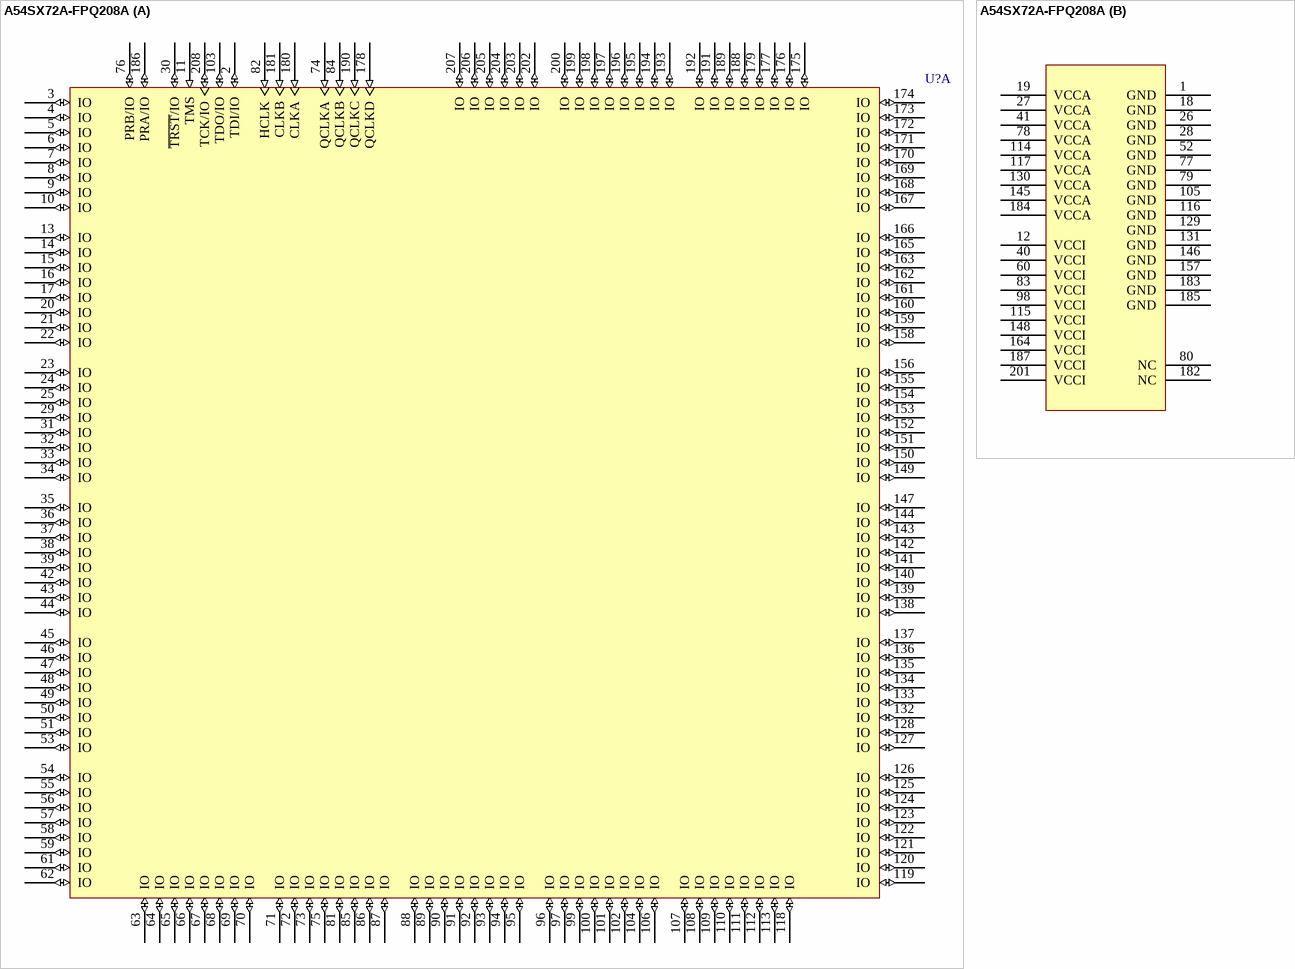
[diagram p228: symbol A54SX72A-FPQ208A]

## A54SX72A-FPQ208A
designator U?
A54SX72A FPGA, 171 User IOs, 208-Pin PQFP, Speed Grade F, Automotive Grade; Published: 21-May-2003; LatestRevisionDate: 13-Apr-2006; LatestRevisionNote: IPC-7351 Footprint Added.; DatasheetVersion: Feb-2005; PackageVersion: v9.2, Apr-2006; PackageReference: PQ208; Publisher: Altium Limited; PackageDescription: 208-Pin Plastic Quad Flat Pack (PQ208); Code_JEDEC: MS-029-FA-1; ComponentLink1Description: Manufacturer Link; ComponentLink1URL: http://www.actel.com/products/sxa/index.html; ComponentLink2Description: Datasheet; ComponentLink2URL: http://www.actel.com/documents/A54SXADS.pdf
footprint PQ208_N (Shrink QFP, 208-Leads, Body 28x28mm, Pitch 0.5mm, IPC Medium Density)
footprint PQ208_L (Shrink QFP, 208-Leads, Body 28x28mm, Pitch 0.5mm, IPC High Density)
footprint PQ208_M (Shrink QFP, 208-Leads, Body 28x28mm, Pitch 0.5mm, IPC Low Density)
3D model A54SX72A-PQ208 (208-Pin Plastic Quad Flat Pack (PQ208))
part A pins: 2 TDI/IO (io), 3 IO (io), 4 IO (io), 5 IO (io), 6 IO (io), 7 IO (io), 8 IO (io), 9 IO (io), 10 IO (io), 11 TMS (in), 13 IO (io), 14 IO (io), 15 IO (io), 16 IO (io), 17 IO (io), 20 IO (io), 21 IO (io), 22 IO (io), 23 IO (io), 24 IO (io), 25 IO (io), 29 IO (io), 30 ~{TRST}/IO (io), 31 IO (io), 32 IO (io), 33 IO (io), 34 IO (io), 35 IO (io), 36 IO (io), 37 IO (io), 38 IO (io), 39 IO (io), 42 IO (io), 43 IO (io), 44 IO (io), 45 IO (io), 46 IO (io), 47 IO (io), 48 IO (io), 49 IO (io), 50 IO (io), 51 IO (io), 53 IO (io), 54 IO (io), 55 IO (io), 56 IO (io), 57 IO (io), 58 IO (io), 59 IO (io), 61 IO (io), 62 IO (io), 63 IO (io), 64 IO (io), 65 IO (io), 66 IO (io), 67 IO (io), 68 IO (io), 69 IO (io), 70 IO (io), 71 IO (io), 72 IO (io), 73 IO (io), 74 QCLKA (in), 75 IO (io), 76 PRB/IO (io), 81 IO (io), 82 HCLK (in), 84 QCLKB (in), 85 IO (io), 86 IO (io), 87 IO (io), 88 IO (io), 89 IO (io), 90 IO (io), 91 IO (io), 92 IO (io), 93 IO (io), 94 IO (io), 95 IO (io), 96 IO (io), 97 IO (io), 99 IO (io), 100 IO (io), 101 IO (io), 102 IO (io), 103 TDO/IO (io), 104 IO (io), 106 IO (io), 107 IO (io), 108 IO (io), 109 IO (io), 110 IO (io), 111 IO (io), 112 IO (io), 113 IO (io), 118 IO (io), 119 IO (io), 120 IO (io), 121 IO (io), 122 IO (io), 123 IO (io), 124 IO (io), 125 IO (io), 126 IO (io), 127 IO (io), 128 IO (io), 132 IO (io), 133 IO (io), 134 IO (io), 135 IO (io), 136 IO (io), 137 IO (io), 138 IO (io), 139 IO (io), 140 IO (io), 141 IO (io), 142 IO (io), 143 IO (io), 144 IO (io), 147 IO (io), 149 IO (io), 150 IO (io), 151 IO (io), 152 IO (io), 153 IO (io), 154 IO (io), 155 IO (io), 156 IO (io), 158 IO (io), 159 IO (io), 160 IO (io), 161 IO (io), 162 IO (io), 163 IO (io), 165 IO (io), 166 IO (io), 167 IO (io), 168 IO (io), 169 IO (io), 170 IO (io), 171 IO (io), 172 IO (io), 173 IO (io), 174 IO (io), 175 IO (io), 176 IO (io), 177 IO (io), 178 QCLKD (in), 179 IO (io), 180 CLKA (in), 181 CLKB (in), 186 PRA/IO (io), 188 IO (io), 189 IO (io), 190 QCLKC (in), 191 IO (io), 192 IO (io), 193 IO (io), 194 IO (io), 195 IO (io), 196 IO (io), 197 IO (io), 198 IO (io), 199 IO (io), 200 IO (io), 202 IO (io), 203 IO (io), 204 IO (io), 205 IO (io), 206 IO (io), 207 IO (io), 208 TCK/IO (io)
part B pins: 1 GND (power), 12 VCCI (power), 18 GND (power), 19 VCCA (power), 26 GND (power), 27 VCCA (power), 28 GND (power), 40 VCCI (power), 41 VCCA (power), 52 GND (power), 60 VCCI (power), 77 GND (power), 78 VCCA (power), 79 GND (power), 80 NC, 83 VCCI (power), 98 VCCI (power), 105 GND (power), 114 VCCA (power), 115 VCCI (power), 116 GND (power), 117 VCCA (power), 129 GND (power), 130 VCCA (power), 131 GND (power), 145 VCCA (power), 146 GND (power), 148 VCCI (power), 157 GND (power), 164 VCCI (power), 182 NC, 183 GND (power), 184 VCCA (power), 185 GND (power), 187 VCCI (power), 201 VCCI (power)

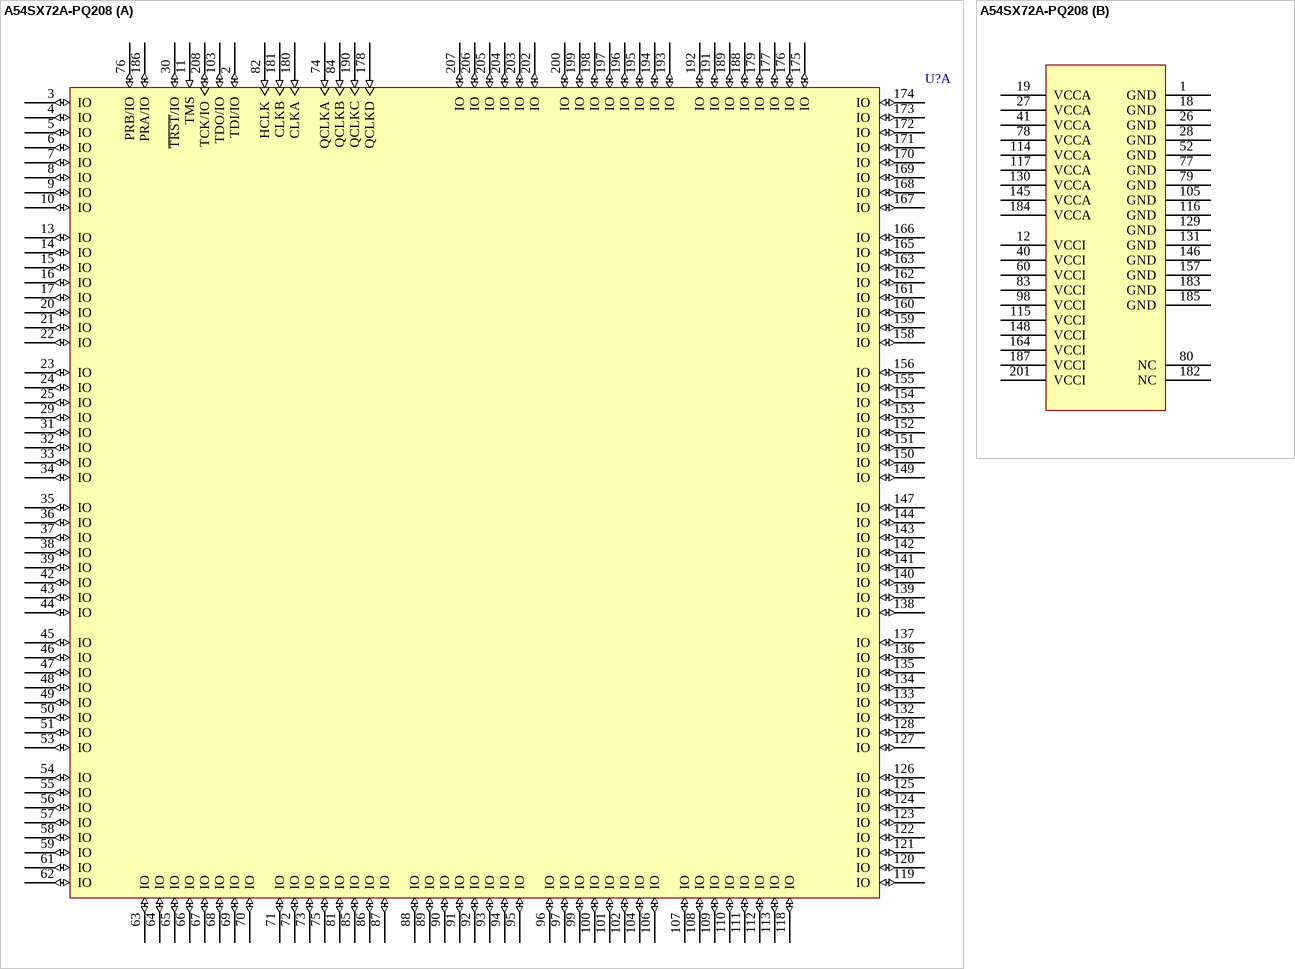
[diagram p229: symbol A54SX72A-PQ208]

## A54SX72A-PQ208
designator U?
A54SX72A FPGA, 171 User IOs, 208-Pin PQFP, Standard Speed Grade, Commercial Grade; Published: 21-May-2003; LatestRevisionDate: 13-Apr-2006; LatestRevisionNote: IPC-7351 Footprint Added.; DatasheetVersion: Feb-2005; PackageVersion: v9.2, Apr-2006; PackageReference: PQ208; Publisher: Altium Limited; PackageDescription: 208-Pin Plastic Quad Flat Pack (PQ208); Code_JEDEC: MS-029-FA-1; ComponentLink1Description: Manufacturer Link; ComponentLink1URL: http://www.actel.com/products/sxa/index.html; ComponentLink2Description: Datasheet; ComponentLink2URL: http://www.actel.com/documents/A54SXADS.pdf
footprint PQ208_N (Shrink QFP, 208-Leads, Body 28x28mm, Pitch 0.5mm, IPC Medium Density)
footprint PQ208_L (Shrink QFP, 208-Leads, Body 28x28mm, Pitch 0.5mm, IPC High Density)
footprint PQ208_M (Shrink QFP, 208-Leads, Body 28x28mm, Pitch 0.5mm, IPC Low Density)
3D model A54SX72A-PQ208 (208-Pin Plastic Quad Flat Pack (PQ208))
part A pins: 2 TDI/IO (io), 3 IO (io), 4 IO (io), 5 IO (io), 6 IO (io), 7 IO (io), 8 IO (io), 9 IO (io), 10 IO (io), 11 TMS (in), 13 IO (io), 14 IO (io), 15 IO (io), 16 IO (io), 17 IO (io), 20 IO (io), 21 IO (io), 22 IO (io), 23 IO (io), 24 IO (io), 25 IO (io), 29 IO (io), 30 ~{TRST}/IO (io), 31 IO (io), 32 IO (io), 33 IO (io), 34 IO (io), 35 IO (io), 36 IO (io), 37 IO (io), 38 IO (io), 39 IO (io), 42 IO (io), 43 IO (io), 44 IO (io), 45 IO (io), 46 IO (io), 47 IO (io), 48 IO (io), 49 IO (io), 50 IO (io), 51 IO (io), 53 IO (io), 54 IO (io), 55 IO (io), 56 IO (io), 57 IO (io), 58 IO (io), 59 IO (io), 61 IO (io), 62 IO (io), 63 IO (io), 64 IO (io), 65 IO (io), 66 IO (io), 67 IO (io), 68 IO (io), 69 IO (io), 70 IO (io), 71 IO (io), 72 IO (io), 73 IO (io), 74 QCLKA (in), 75 IO (io), 76 PRB/IO (io), 81 IO (io), 82 HCLK (in), 84 QCLKB (in), 85 IO (io), 86 IO (io), 87 IO (io), 88 IO (io), 89 IO (io), 90 IO (io), 91 IO (io), 92 IO (io), 93 IO (io), 94 IO (io), 95 IO (io), 96 IO (io), 97 IO (io), 99 IO (io), 100 IO (io), 101 IO (io), 102 IO (io), 103 TDO/IO (io), 104 IO (io), 106 IO (io), 107 IO (io), 108 IO (io), 109 IO (io), 110 IO (io), 111 IO (io), 112 IO (io), 113 IO (io), 118 IO (io), 119 IO (io), 120 IO (io), 121 IO (io), 122 IO (io), 123 IO (io), 124 IO (io), 125 IO (io), 126 IO (io), 127 IO (io), 128 IO (io), 132 IO (io), 133 IO (io), 134 IO (io), 135 IO (io), 136 IO (io), 137 IO (io), 138 IO (io), 139 IO (io), 140 IO (io), 141 IO (io), 142 IO (io), 143 IO (io), 144 IO (io), 147 IO (io), 149 IO (io), 150 IO (io), 151 IO (io), 152 IO (io), 153 IO (io), 154 IO (io), 155 IO (io), 156 IO (io), 158 IO (io), 159 IO (io), 160 IO (io), 161 IO (io), 162 IO (io), 163 IO (io), 165 IO (io), 166 IO (io), 167 IO (io), 168 IO (io), 169 IO (io), 170 IO (io), 171 IO (io), 172 IO (io), 173 IO (io), 174 IO (io), 175 IO (io), 176 IO (io), 177 IO (io), 178 QCLKD (in), 179 IO (io), 180 CLKA (in), 181 CLKB (in), 186 PRA/IO (io), 188 IO (io), 189 IO (io), 190 QCLKC (in), 191 IO (io), 192 IO (io), 193 IO (io), 194 IO (io), 195 IO (io), 196 IO (io), 197 IO (io), 198 IO (io), 199 IO (io), 200 IO (io), 202 IO (io), 203 IO (io), 204 IO (io), 205 IO (io), 206 IO (io), 207 IO (io), 208 TCK/IO (io)
part B pins: 1 GND (power), 12 VCCI (power), 18 GND (power), 19 VCCA (power), 26 GND (power), 27 VCCA (power), 28 GND (power), 40 VCCI (power), 41 VCCA (power), 52 GND (power), 60 VCCI (power), 77 GND (power), 78 VCCA (power), 79 GND (power), 80 NC, 83 VCCI (power), 98 VCCI (power), 105 GND (power), 114 VCCA (power), 115 VCCI (power), 116 GND (power), 117 VCCA (power), 129 GND (power), 130 VCCA (power), 131 GND (power), 145 VCCA (power), 146 GND (power), 148 VCCI (power), 157 GND (power), 164 VCCI (power), 182 NC, 183 GND (power), 184 VCCA (power), 185 GND (power), 187 VCCI (power), 201 VCCI (power)

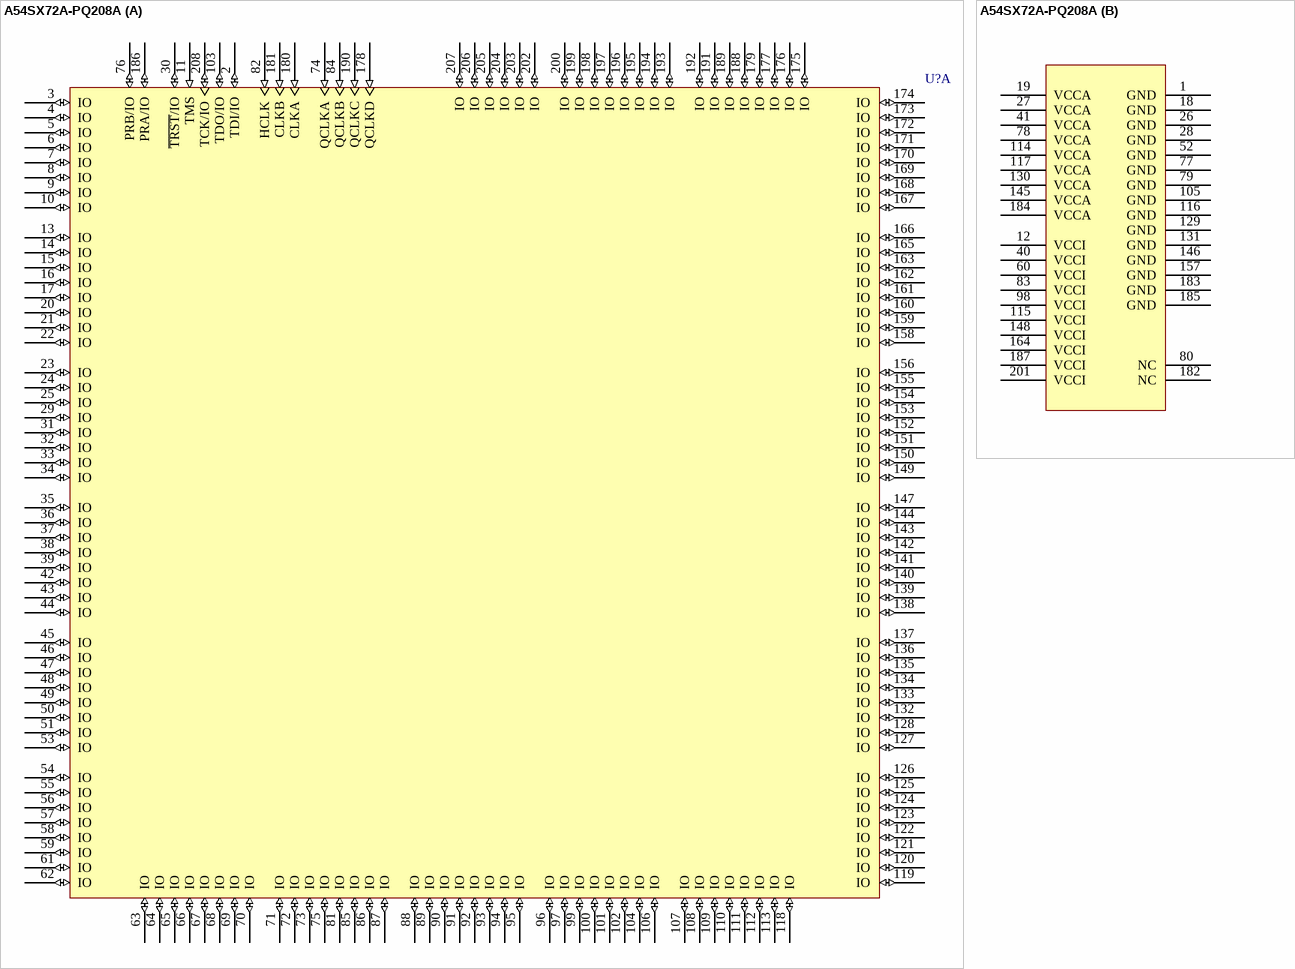
[diagram p230: symbol A54SX72A-PQ208A]

## A54SX72A-PQ208A
designator U?
A54SX72A FPGA, 171 User IOs, 208-Pin PQFP, Standard Speed Grade, Automotive Grade; Published: 21-May-2003; LatestRevisionDate: 13-Apr-2006; LatestRevisionNote: IPC-7351 Footprint Added.; DatasheetVersion: Feb-2005; PackageVersion: v9.2, Apr-2006; PackageReference: PQ208; Publisher: Altium Limited; PackageDescription: 208-Pin Plastic Quad Flat Pack (PQ208); Code_JEDEC: MS-029-FA-1; ComponentLink1Description: Manufacturer Link; ComponentLink1URL: http://www.actel.com/products/sxa/index.html; ComponentLink2Description: Datasheet; ComponentLink2URL: http://www.actel.com/documents/A54SXADS.pdf
footprint PQ208_N (Shrink QFP, 208-Leads, Body 28x28mm, Pitch 0.5mm, IPC Medium Density)
footprint PQ208_L (Shrink QFP, 208-Leads, Body 28x28mm, Pitch 0.5mm, IPC High Density)
footprint PQ208_M (Shrink QFP, 208-Leads, Body 28x28mm, Pitch 0.5mm, IPC Low Density)
3D model A54SX72A-PQ208 (208-Pin Plastic Quad Flat Pack (PQ208))
part A pins: 2 TDI/IO (io), 3 IO (io), 4 IO (io), 5 IO (io), 6 IO (io), 7 IO (io), 8 IO (io), 9 IO (io), 10 IO (io), 11 TMS (in), 13 IO (io), 14 IO (io), 15 IO (io), 16 IO (io), 17 IO (io), 20 IO (io), 21 IO (io), 22 IO (io), 23 IO (io), 24 IO (io), 25 IO (io), 29 IO (io), 30 ~{TRST}/IO (io), 31 IO (io), 32 IO (io), 33 IO (io), 34 IO (io), 35 IO (io), 36 IO (io), 37 IO (io), 38 IO (io), 39 IO (io), 42 IO (io), 43 IO (io), 44 IO (io), 45 IO (io), 46 IO (io), 47 IO (io), 48 IO (io), 49 IO (io), 50 IO (io), 51 IO (io), 53 IO (io), 54 IO (io), 55 IO (io), 56 IO (io), 57 IO (io), 58 IO (io), 59 IO (io), 61 IO (io), 62 IO (io), 63 IO (io), 64 IO (io), 65 IO (io), 66 IO (io), 67 IO (io), 68 IO (io), 69 IO (io), 70 IO (io), 71 IO (io), 72 IO (io), 73 IO (io), 74 QCLKA (in), 75 IO (io), 76 PRB/IO (io), 81 IO (io), 82 HCLK (in), 84 QCLKB (in), 85 IO (io), 86 IO (io), 87 IO (io), 88 IO (io), 89 IO (io), 90 IO (io), 91 IO (io), 92 IO (io), 93 IO (io), 94 IO (io), 95 IO (io), 96 IO (io), 97 IO (io), 99 IO (io), 100 IO (io), 101 IO (io), 102 IO (io), 103 TDO/IO (io), 104 IO (io), 106 IO (io), 107 IO (io), 108 IO (io), 109 IO (io), 110 IO (io), 111 IO (io), 112 IO (io), 113 IO (io), 118 IO (io), 119 IO (io), 120 IO (io), 121 IO (io), 122 IO (io), 123 IO (io), 124 IO (io), 125 IO (io), 126 IO (io), 127 IO (io), 128 IO (io), 132 IO (io), 133 IO (io), 134 IO (io), 135 IO (io), 136 IO (io), 137 IO (io), 138 IO (io), 139 IO (io), 140 IO (io), 141 IO (io), 142 IO (io), 143 IO (io), 144 IO (io), 147 IO (io), 149 IO (io), 150 IO (io), 151 IO (io), 152 IO (io), 153 IO (io), 154 IO (io), 155 IO (io), 156 IO (io), 158 IO (io), 159 IO (io), 160 IO (io), 161 IO (io), 162 IO (io), 163 IO (io), 165 IO (io), 166 IO (io), 167 IO (io), 168 IO (io), 169 IO (io), 170 IO (io), 171 IO (io), 172 IO (io), 173 IO (io), 174 IO (io), 175 IO (io), 176 IO (io), 177 IO (io), 178 QCLKD (in), 179 IO (io), 180 CLKA (in), 181 CLKB (in), 186 PRA/IO (io), 188 IO (io), 189 IO (io), 190 QCLKC (in), 191 IO (io), 192 IO (io), 193 IO (io), 194 IO (io), 195 IO (io), 196 IO (io), 197 IO (io), 198 IO (io), 199 IO (io), 200 IO (io), 202 IO (io), 203 IO (io), 204 IO (io), 205 IO (io), 206 IO (io), 207 IO (io), 208 TCK/IO (io)
part B pins: 1 GND (power), 12 VCCI (power), 18 GND (power), 19 VCCA (power), 26 GND (power), 27 VCCA (power), 28 GND (power), 40 VCCI (power), 41 VCCA (power), 52 GND (power), 60 VCCI (power), 77 GND (power), 78 VCCA (power), 79 GND (power), 80 NC, 83 VCCI (power), 98 VCCI (power), 105 GND (power), 114 VCCA (power), 115 VCCI (power), 116 GND (power), 117 VCCA (power), 129 GND (power), 130 VCCA (power), 131 GND (power), 145 VCCA (power), 146 GND (power), 148 VCCI (power), 157 GND (power), 164 VCCI (power), 182 NC, 183 GND (power), 184 VCCA (power), 185 GND (power), 187 VCCI (power), 201 VCCI (power)

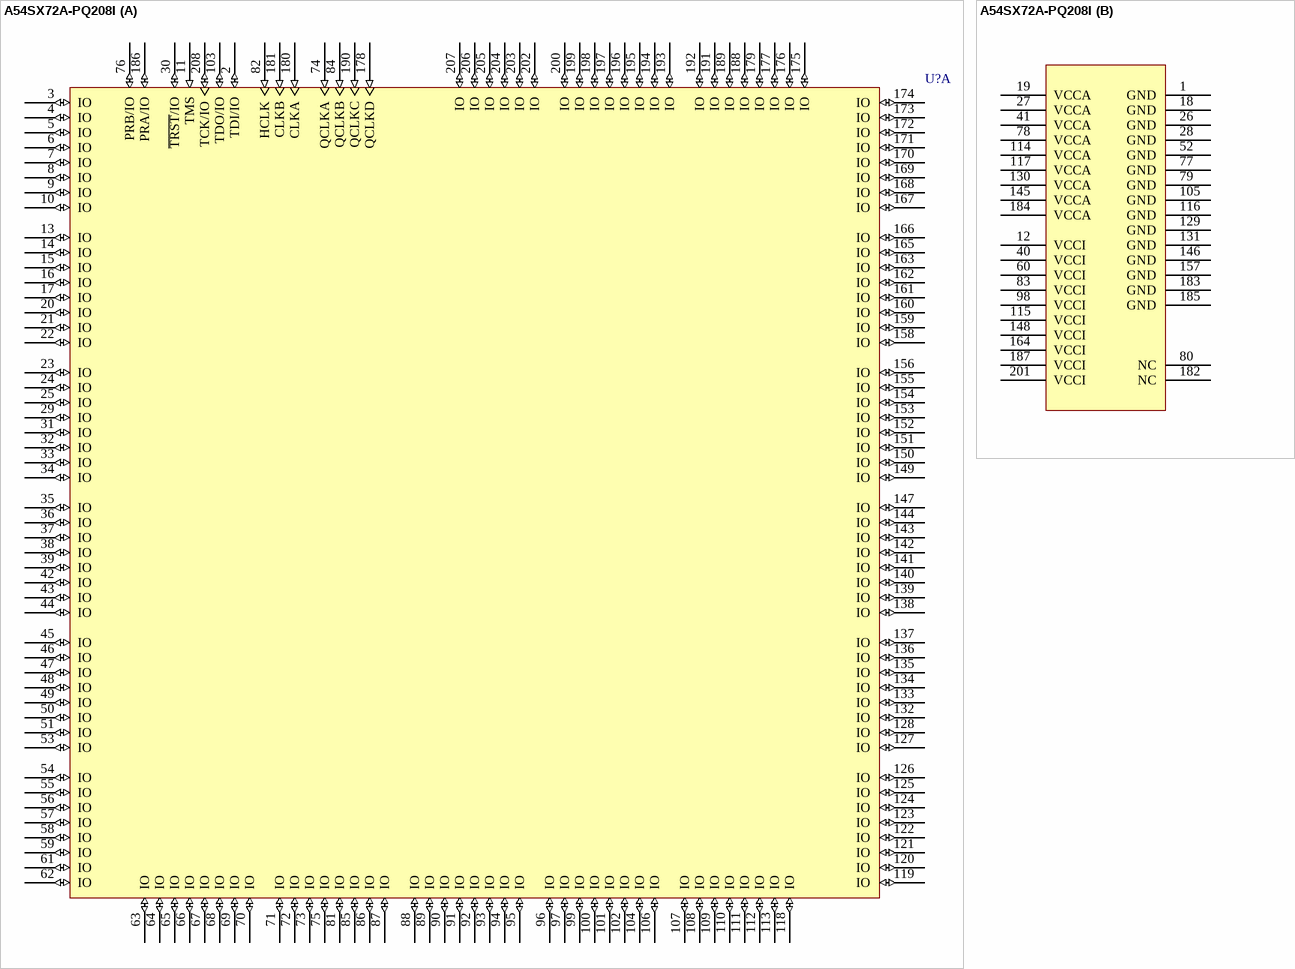
[diagram p231: symbol A54SX72A-PQ208I]

## A54SX72A-PQ208I
designator U?
A54SX72A FPGA, 171 User IOs, 208-Pin PQFP, Standard Speed Grade, Industrial Grade; Published: 21-May-2003; LatestRevisionDate: 13-Apr-2006; LatestRevisionNote: IPC-7351 Footprint Added.; DatasheetVersion: Feb-2005; PackageVersion: v9.2, Apr-2006; PackageReference: PQ208; Publisher: Altium Limited; PackageDescription: 208-Pin Plastic Quad Flat Pack (PQ208); Code_JEDEC: MS-029-FA-1; ComponentLink1Description: Manufacturer Link; ComponentLink1URL: http://www.actel.com/products/sxa/index.html; ComponentLink2Description: Datasheet; ComponentLink2URL: http://www.actel.com/documents/A54SXADS.pdf
footprint PQ208_N (Shrink QFP, 208-Leads, Body 28x28mm, Pitch 0.5mm, IPC Medium Density)
footprint PQ208_L (Shrink QFP, 208-Leads, Body 28x28mm, Pitch 0.5mm, IPC High Density)
footprint PQ208_M (Shrink QFP, 208-Leads, Body 28x28mm, Pitch 0.5mm, IPC Low Density)
3D model A54SX72A-PQ208 (208-Pin Plastic Quad Flat Pack (PQ208))
part A pins: 2 TDI/IO (io), 3 IO (io), 4 IO (io), 5 IO (io), 6 IO (io), 7 IO (io), 8 IO (io), 9 IO (io), 10 IO (io), 11 TMS (in), 13 IO (io), 14 IO (io), 15 IO (io), 16 IO (io), 17 IO (io), 20 IO (io), 21 IO (io), 22 IO (io), 23 IO (io), 24 IO (io), 25 IO (io), 29 IO (io), 30 ~{TRST}/IO (io), 31 IO (io), 32 IO (io), 33 IO (io), 34 IO (io), 35 IO (io), 36 IO (io), 37 IO (io), 38 IO (io), 39 IO (io), 42 IO (io), 43 IO (io), 44 IO (io), 45 IO (io), 46 IO (io), 47 IO (io), 48 IO (io), 49 IO (io), 50 IO (io), 51 IO (io), 53 IO (io), 54 IO (io), 55 IO (io), 56 IO (io), 57 IO (io), 58 IO (io), 59 IO (io), 61 IO (io), 62 IO (io), 63 IO (io), 64 IO (io), 65 IO (io), 66 IO (io), 67 IO (io), 68 IO (io), 69 IO (io), 70 IO (io), 71 IO (io), 72 IO (io), 73 IO (io), 74 QCLKA (in), 75 IO (io), 76 PRB/IO (io), 81 IO (io), 82 HCLK (in), 84 QCLKB (in), 85 IO (io), 86 IO (io), 87 IO (io), 88 IO (io), 89 IO (io), 90 IO (io), 91 IO (io), 92 IO (io), 93 IO (io), 94 IO (io), 95 IO (io), 96 IO (io), 97 IO (io), 99 IO (io), 100 IO (io), 101 IO (io), 102 IO (io), 103 TDO/IO (io), 104 IO (io), 106 IO (io), 107 IO (io), 108 IO (io), 109 IO (io), 110 IO (io), 111 IO (io), 112 IO (io), 113 IO (io), 118 IO (io), 119 IO (io), 120 IO (io), 121 IO (io), 122 IO (io), 123 IO (io), 124 IO (io), 125 IO (io), 126 IO (io), 127 IO (io), 128 IO (io), 132 IO (io), 133 IO (io), 134 IO (io), 135 IO (io), 136 IO (io), 137 IO (io), 138 IO (io), 139 IO (io), 140 IO (io), 141 IO (io), 142 IO (io), 143 IO (io), 144 IO (io), 147 IO (io), 149 IO (io), 150 IO (io), 151 IO (io), 152 IO (io), 153 IO (io), 154 IO (io), 155 IO (io), 156 IO (io), 158 IO (io), 159 IO (io), 160 IO (io), 161 IO (io), 162 IO (io), 163 IO (io), 165 IO (io), 166 IO (io), 167 IO (io), 168 IO (io), 169 IO (io), 170 IO (io), 171 IO (io), 172 IO (io), 173 IO (io), 174 IO (io), 175 IO (io), 176 IO (io), 177 IO (io), 178 QCLKD (in), 179 IO (io), 180 CLKA (in), 181 CLKB (in), 186 PRA/IO (io), 188 IO (io), 189 IO (io), 190 QCLKC (in), 191 IO (io), 192 IO (io), 193 IO (io), 194 IO (io), 195 IO (io), 196 IO (io), 197 IO (io), 198 IO (io), 199 IO (io), 200 IO (io), 202 IO (io), 203 IO (io), 204 IO (io), 205 IO (io), 206 IO (io), 207 IO (io), 208 TCK/IO (io)
part B pins: 1 GND (power), 12 VCCI (power), 18 GND (power), 19 VCCA (power), 26 GND (power), 27 VCCA (power), 28 GND (power), 40 VCCI (power), 41 VCCA (power), 52 GND (power), 60 VCCI (power), 77 GND (power), 78 VCCA (power), 79 GND (power), 80 NC, 83 VCCI (power), 98 VCCI (power), 105 GND (power), 114 VCCA (power), 115 VCCI (power), 116 GND (power), 117 VCCA (power), 129 GND (power), 130 VCCA (power), 131 GND (power), 145 VCCA (power), 146 GND (power), 148 VCCI (power), 157 GND (power), 164 VCCI (power), 182 NC, 183 GND (power), 184 VCCA (power), 185 GND (power), 187 VCCI (power), 201 VCCI (power)

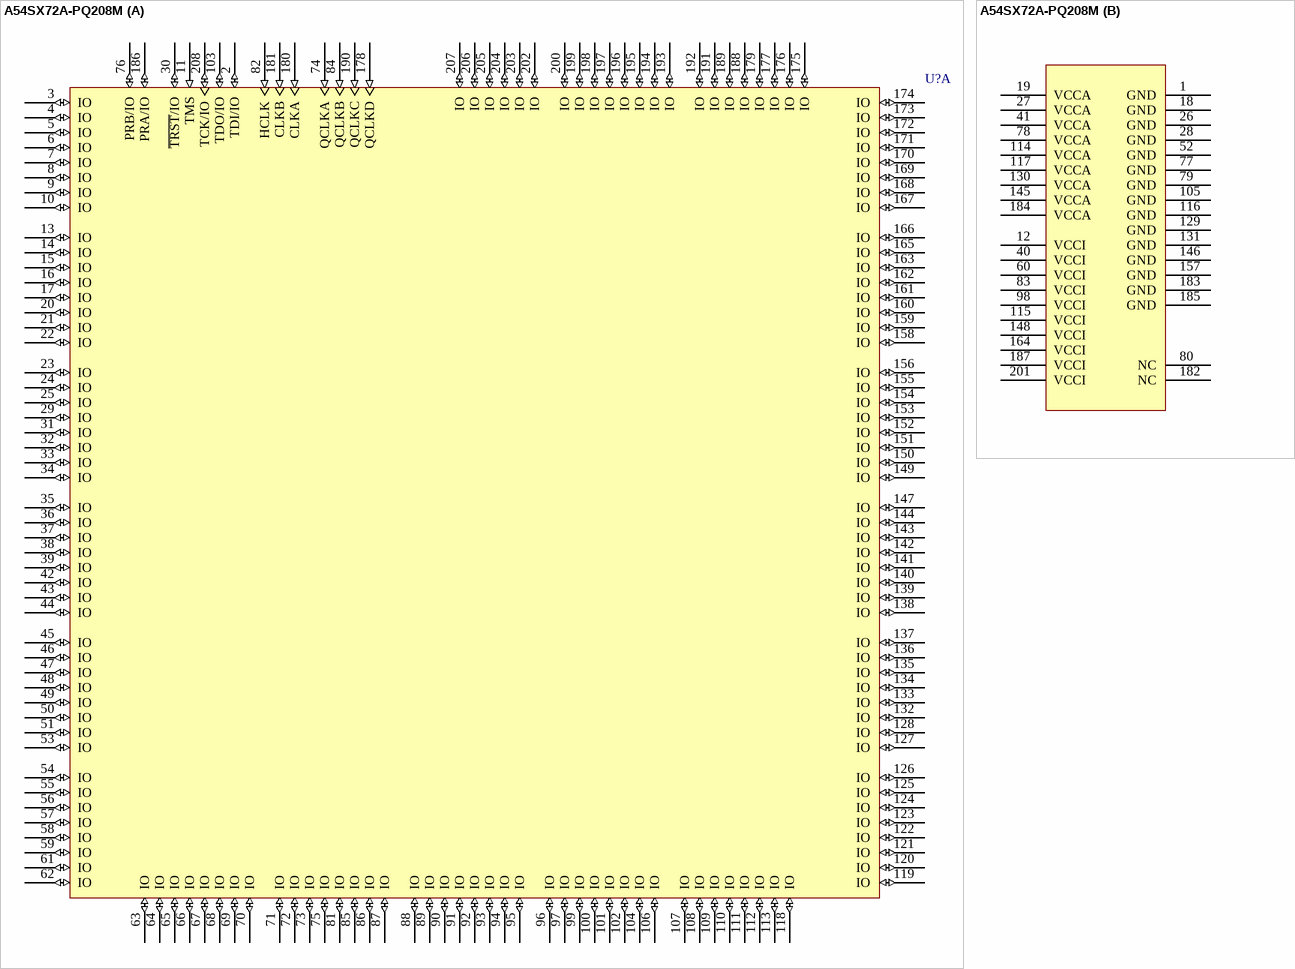
[diagram p232: symbol A54SX72A-PQ208M]

## A54SX72A-PQ208M
designator U?
A54SX72A FPGA, 171 User IOs, 208-Pin PQFP, Standard Speed Grade, Military Grade; Published: 17-Sep-2003; LatestRevisionDate: 13-Apr-2006; LatestRevisionNote: IPC-7351 Footprint Added.; DatasheetVersion: Feb-2005; PackageVersion: v9.2, Apr-2006; PackageReference: PQ208; Publisher: Altium Limited; PackageDescription: 208-Pin Plastic Quad Flat Pack (PQ208); Code_JEDEC: MS-029-FA-1; ComponentLink1Description: Manufacturer Link; ComponentLink1URL: http://www.actel.com/products/sxa/index.html; ComponentLink2Description: Datasheet; ComponentLink2URL: http://www.actel.com/documents/A54SXADS.pdf
footprint PQ208_N (Shrink QFP, 208-Leads, Body 28x28mm, Pitch 0.5mm, IPC Medium Density)
footprint PQ208_L (Shrink QFP, 208-Leads, Body 28x28mm, Pitch 0.5mm, IPC High Density)
footprint PQ208_M (Shrink QFP, 208-Leads, Body 28x28mm, Pitch 0.5mm, IPC Low Density)
3D model A54SX72A-PQ208 (208-Pin Plastic Quad Flat Pack (PQ208))
part A pins: 2 TDI/IO (io), 3 IO (io), 4 IO (io), 5 IO (io), 6 IO (io), 7 IO (io), 8 IO (io), 9 IO (io), 10 IO (io), 11 TMS (in), 13 IO (io), 14 IO (io), 15 IO (io), 16 IO (io), 17 IO (io), 20 IO (io), 21 IO (io), 22 IO (io), 23 IO (io), 24 IO (io), 25 IO (io), 29 IO (io), 30 ~{TRST}/IO (io), 31 IO (io), 32 IO (io), 33 IO (io), 34 IO (io), 35 IO (io), 36 IO (io), 37 IO (io), 38 IO (io), 39 IO (io), 42 IO (io), 43 IO (io), 44 IO (io), 45 IO (io), 46 IO (io), 47 IO (io), 48 IO (io), 49 IO (io), 50 IO (io), 51 IO (io), 53 IO (io), 54 IO (io), 55 IO (io), 56 IO (io), 57 IO (io), 58 IO (io), 59 IO (io), 61 IO (io), 62 IO (io), 63 IO (io), 64 IO (io), 65 IO (io), 66 IO (io), 67 IO (io), 68 IO (io), 69 IO (io), 70 IO (io), 71 IO (io), 72 IO (io), 73 IO (io), 74 QCLKA (in), 75 IO (io), 76 PRB/IO (io), 81 IO (io), 82 HCLK (in), 84 QCLKB (in), 85 IO (io), 86 IO (io), 87 IO (io), 88 IO (io), 89 IO (io), 90 IO (io), 91 IO (io), 92 IO (io), 93 IO (io), 94 IO (io), 95 IO (io), 96 IO (io), 97 IO (io), 99 IO (io), 100 IO (io), 101 IO (io), 102 IO (io), 103 TDO/IO (io), 104 IO (io), 106 IO (io), 107 IO (io), 108 IO (io), 109 IO (io), 110 IO (io), 111 IO (io), 112 IO (io), 113 IO (io), 118 IO (io), 119 IO (io), 120 IO (io), 121 IO (io), 122 IO (io), 123 IO (io), 124 IO (io), 125 IO (io), 126 IO (io), 127 IO (io), 128 IO (io), 132 IO (io), 133 IO (io), 134 IO (io), 135 IO (io), 136 IO (io), 137 IO (io), 138 IO (io), 139 IO (io), 140 IO (io), 141 IO (io), 142 IO (io), 143 IO (io), 144 IO (io), 147 IO (io), 149 IO (io), 150 IO (io), 151 IO (io), 152 IO (io), 153 IO (io), 154 IO (io), 155 IO (io), 156 IO (io), 158 IO (io), 159 IO (io), 160 IO (io), 161 IO (io), 162 IO (io), 163 IO (io), 165 IO (io), 166 IO (io), 167 IO (io), 168 IO (io), 169 IO (io), 170 IO (io), 171 IO (io), 172 IO (io), 173 IO (io), 174 IO (io), 175 IO (io), 176 IO (io), 177 IO (io), 178 QCLKD (in), 179 IO (io), 180 CLKA (in), 181 CLKB (in), 186 PRA/IO (io), 188 IO (io), 189 IO (io), 190 QCLKC (in), 191 IO (io), 192 IO (io), 193 IO (io), 194 IO (io), 195 IO (io), 196 IO (io), 197 IO (io), 198 IO (io), 199 IO (io), 200 IO (io), 202 IO (io), 203 IO (io), 204 IO (io), 205 IO (io), 206 IO (io), 207 IO (io), 208 TCK/IO (io)
part B pins: 1 GND (power), 12 VCCI (power), 18 GND (power), 19 VCCA (power), 26 GND (power), 27 VCCA (power), 28 GND (power), 40 VCCI (power), 41 VCCA (power), 52 GND (power), 60 VCCI (power), 77 GND (power), 78 VCCA (power), 79 GND (power), 80 NC, 83 VCCI (power), 98 VCCI (power), 105 GND (power), 114 VCCA (power), 115 VCCI (power), 116 GND (power), 117 VCCA (power), 129 GND (power), 130 VCCA (power), 131 GND (power), 145 VCCA (power), 146 GND (power), 148 VCCI (power), 157 GND (power), 164 VCCI (power), 182 NC, 183 GND (power), 184 VCCA (power), 185 GND (power), 187 VCCI (power), 201 VCCI (power)